# Altium integrated library NUVOTON.IntLib: 234 symbols (part 3 of 9)

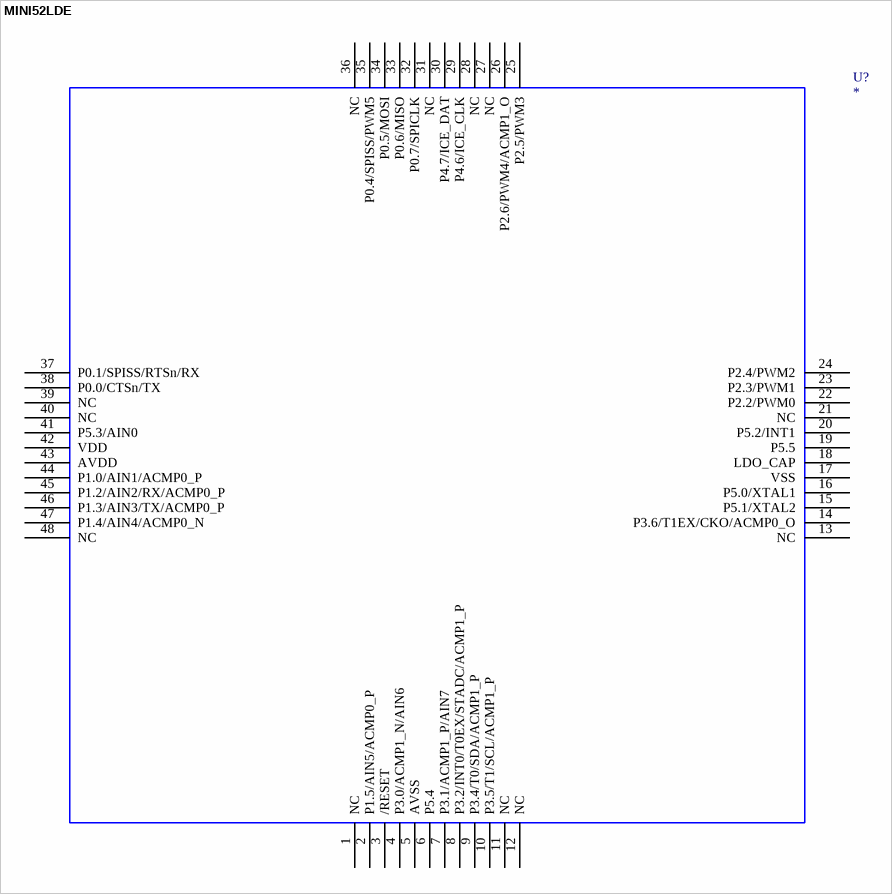
[diagram p46: symbol MINI52LDE]

## MINI52LDE
designator U?
OriginalSymbolOrigin: (0,0)
footprint MCU_LQFP_48
pins: 1 NC, 2 P1.5/AIN5/ACMP0_P, 3 /RESET, 4 P3.0/ACMP1_N/AIN6, 5 AVSS, 6 P5.4, 7 P3.1/ACMP1_P/AIN7, 8 P3.2/INT0/T0EX/STADC/ACMP1_P, 9 P3.4/T0/SDA/ACMP1_P, 10 P3.5/T1/SCL/ACMP1_P, 11 NC, 12 NC, 13 NC, 14 P3.6/T1EX/CKO/ACMP0_O, 15 P5.1/XTAL2, 16 P5.0/XTAL1, 17 VSS, 18 LDO_CAP, 19 P5.5, 20 P5.2/INT1, 21 NC, 22 P2.2/PWM0, 23 P2.3/PWM1, 24 P2.4/PWM2, 25 P2.5/PWM3, 26 P2.6/PWM4/ACMP1_O, 27 NC, 28 NC, 29 P4.6/ICE_CLK, 30 P4.7/ICE_DAT, 31 NC, 32 P0.7/SPICLK, 33 P0.6/MISO, 34 P0.5/MOSI, 35 P0.4/SPISS/PWM5, 36 NC, 37 P0.1/SPISS/RTSn/RX, 38 P0.0/CTSn/TX, 39 NC, 40 NC, 41 P5.3/AIN0, 42 VDD, 43 AVDD, 44 P1.0/AIN1/ACMP0_P, 45 P1.2/AIN2/RX/ACMP0_P, 46 P1.3/AIN3/TX/ACMP0_P, 47 P1.4/AIN4/ACMP0_N, 48 NC

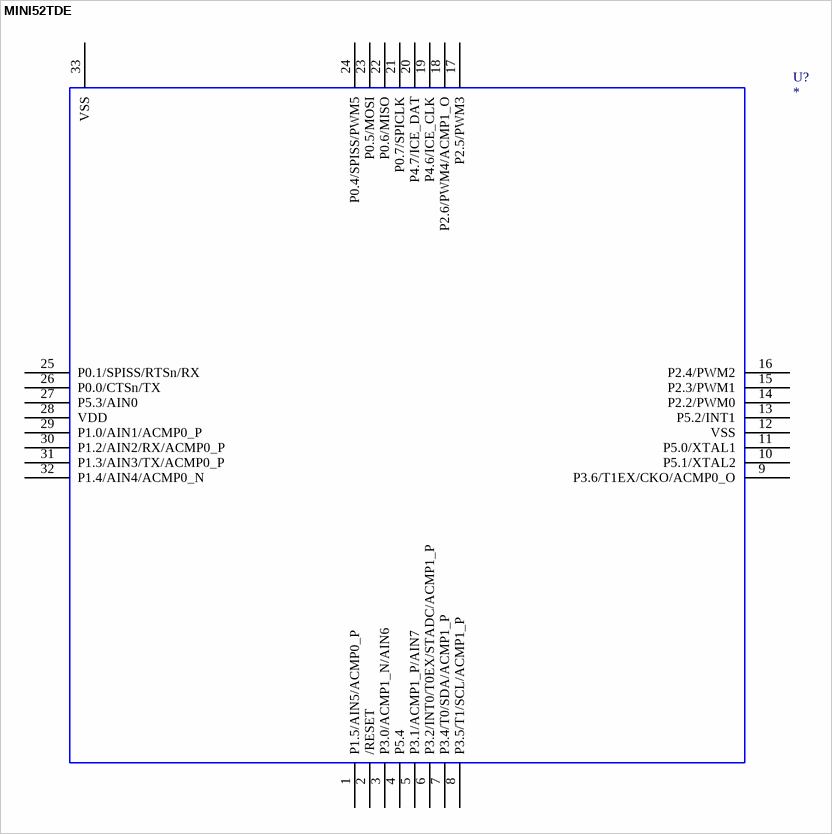
[diagram p47: symbol MINI52TDE]

## MINI52TDE
designator U?
OriginalSymbolOrigin: (0,0)
footprint MCU_QFN_33_4x4
pins: 1 P1.5/AIN5/ACMP0_P, 2 /RESET, 3 P3.0/ACMP1_N/AIN6, 4 P5.4, 5 P3.1/ACMP1_P/AIN7, 6 P3.2/INT0/T0EX/STADC/ACMP1_P, 7 P3.4/T0/SDA/ACMP1_P, 8 P3.5/T1/SCL/ACMP1_P, 9 P3.6/T1EX/CKO/ACMP0_O, 10 P5.1/XTAL2, 11 P5.0/XTAL1, 12 VSS, 13 P5.2/INT1, 14 P2.2/PWM0, 15 P2.3/PWM1, 16 P2.4/PWM2, 17 P2.5/PWM3, 18 P2.6/PWM4/ACMP1_O, 19 P4.6/ICE_CLK, 20 P4.7/ICE_DAT, 21 P0.7/SPICLK, 22 P0.6/MISO, 23 P0.5/MOSI, 24 P0.4/SPISS/PWM5, 25 P0.1/SPISS/RTSn/RX, 26 P0.0/CTSn/TX, 27 P5.3/AIN0, 28 VDD, 29 P1.0/AIN1/ACMP0_P, 30 P1.2/AIN2/RX/ACMP0_P, 31 P1.3/AIN3/TX/ACMP0_P, 32 P1.4/AIN4/ACMP0_N, 33 VSS

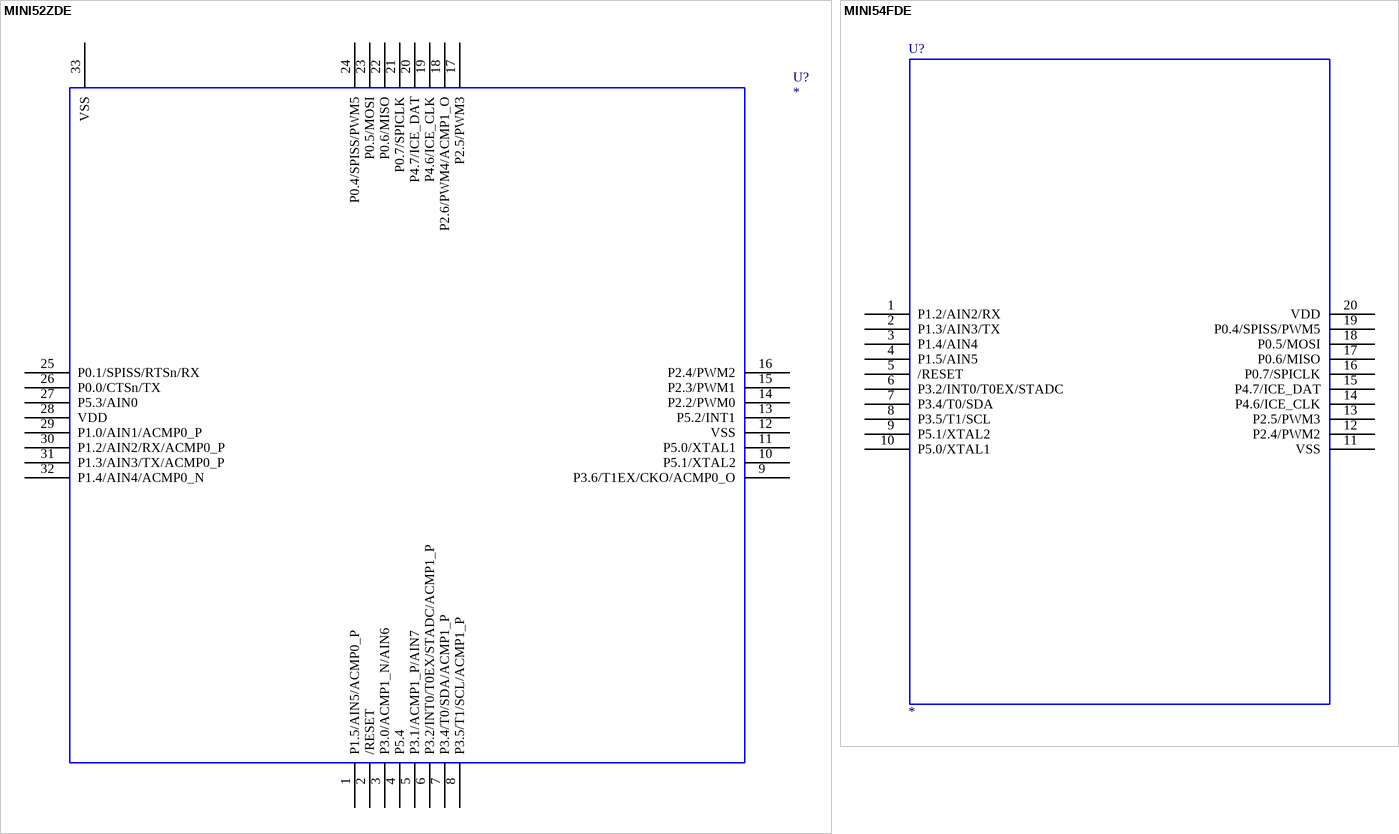
[diagram p48: symbols MINI52ZDE to MINI54FDE]

## MINI52ZDE
designator U?
OriginalSymbolOrigin: (0,0)
footprint MCU_QFN_33_5x5
pins: 1 P1.5/AIN5/ACMP0_P, 2 /RESET, 3 P3.0/ACMP1_N/AIN6, 4 P5.4, 5 P3.1/ACMP1_P/AIN7, 6 P3.2/INT0/T0EX/STADC/ACMP1_P, 7 P3.4/T0/SDA/ACMP1_P, 8 P3.5/T1/SCL/ACMP1_P, 9 P3.6/T1EX/CKO/ACMP0_O, 10 P5.1/XTAL2, 11 P5.0/XTAL1, 12 VSS, 13 P5.2/INT1, 14 P2.2/PWM0, 15 P2.3/PWM1, 16 P2.4/PWM2, 17 P2.5/PWM3, 18 P2.6/PWM4/ACMP1_O, 19 P4.6/ICE_CLK, 20 P4.7/ICE_DAT, 21 P0.7/SPICLK, 22 P0.6/MISO, 23 P0.5/MOSI, 24 P0.4/SPISS/PWM5, 25 P0.1/SPISS/RTSn/RX, 26 P0.0/CTSn/TX, 27 P5.3/AIN0, 28 VDD, 29 P1.0/AIN1/ACMP0_P, 30 P1.2/AIN2/RX/ACMP0_P, 31 P1.3/AIN3/TX/ACMP0_P, 32 P1.4/AIN4/ACMP0_N, 33 VSS

## MINI54FDE
designator U?
OriginalSymbolOrigin: (0,0)
footprint MCU_TSSOP_20
pins: 1 P1.2/AIN2/RX, 2 P1.3/AIN3/TX, 3 P1.4/AIN4, 4 P1.5/AIN5, 5 /RESET, 6 P3.2/INT0/T0EX/STADC, 7 P3.4/T0/SDA, 8 P3.5/T1/SCL, 9 P5.1/XTAL2, 10 P5.0/XTAL1, 11 VSS, 12 P2.4/PWM2, 13 P2.5/PWM3, 14 P4.6/ICE_CLK, 15 P4.7/ICE_DAT, 16 P0.7/SPICLK, 17 P0.6/MISO, 18 P0.5/MOSI, 19 P0.4/SPISS/PWM5, 20 VDD

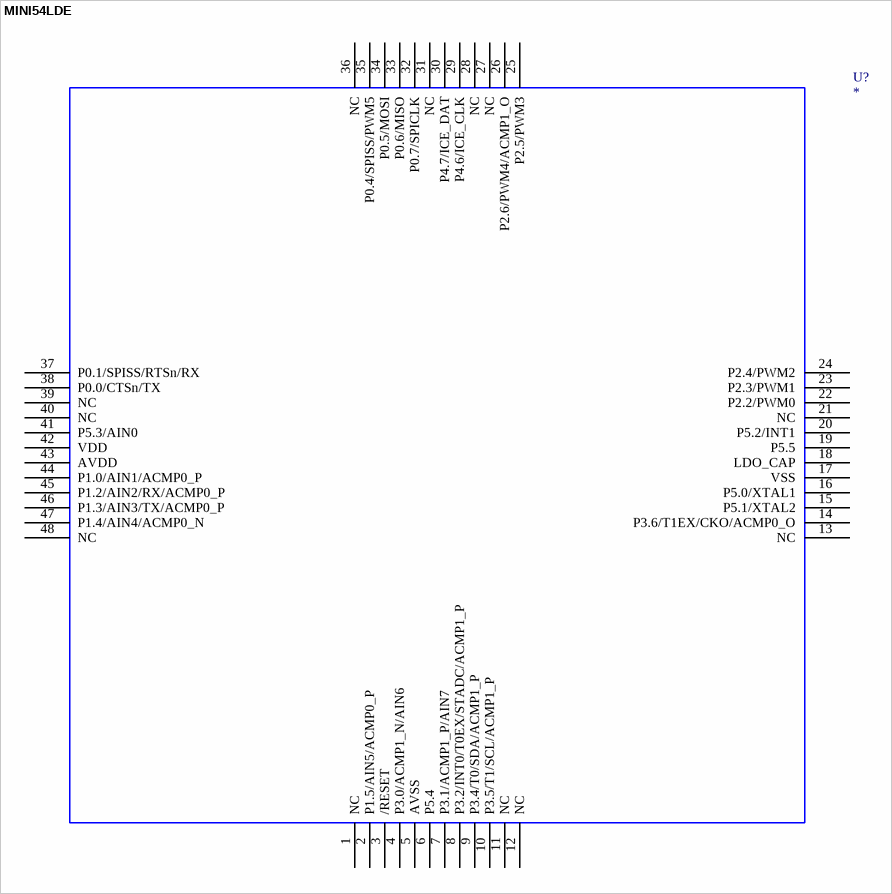
[diagram p49: symbol MINI54LDE]

## MINI54LDE
designator U?
OriginalSymbolOrigin: (0,0)
footprint MCU_LQFP_48
pins: 1 NC, 2 P1.5/AIN5/ACMP0_P, 3 /RESET, 4 P3.0/ACMP1_N/AIN6, 5 AVSS, 6 P5.4, 7 P3.1/ACMP1_P/AIN7, 8 P3.2/INT0/T0EX/STADC/ACMP1_P, 9 P3.4/T0/SDA/ACMP1_P, 10 P3.5/T1/SCL/ACMP1_P, 11 NC, 12 NC, 13 NC, 14 P3.6/T1EX/CKO/ACMP0_O, 15 P5.1/XTAL2, 16 P5.0/XTAL1, 17 VSS, 18 LDO_CAP, 19 P5.5, 20 P5.2/INT1, 21 NC, 22 P2.2/PWM0, 23 P2.3/PWM1, 24 P2.4/PWM2, 25 P2.5/PWM3, 26 P2.6/PWM4/ACMP1_O, 27 NC, 28 NC, 29 P4.6/ICE_CLK, 30 P4.7/ICE_DAT, 31 NC, 32 P0.7/SPICLK, 33 P0.6/MISO, 34 P0.5/MOSI, 35 P0.4/SPISS/PWM5, 36 NC, 37 P0.1/SPISS/RTSn/RX, 38 P0.0/CTSn/TX, 39 NC, 40 NC, 41 P5.3/AIN0, 42 VDD, 43 AVDD, 44 P1.0/AIN1/ACMP0_P, 45 P1.2/AIN2/RX/ACMP0_P, 46 P1.3/AIN3/TX/ACMP0_P, 47 P1.4/AIN4/ACMP0_N, 48 NC

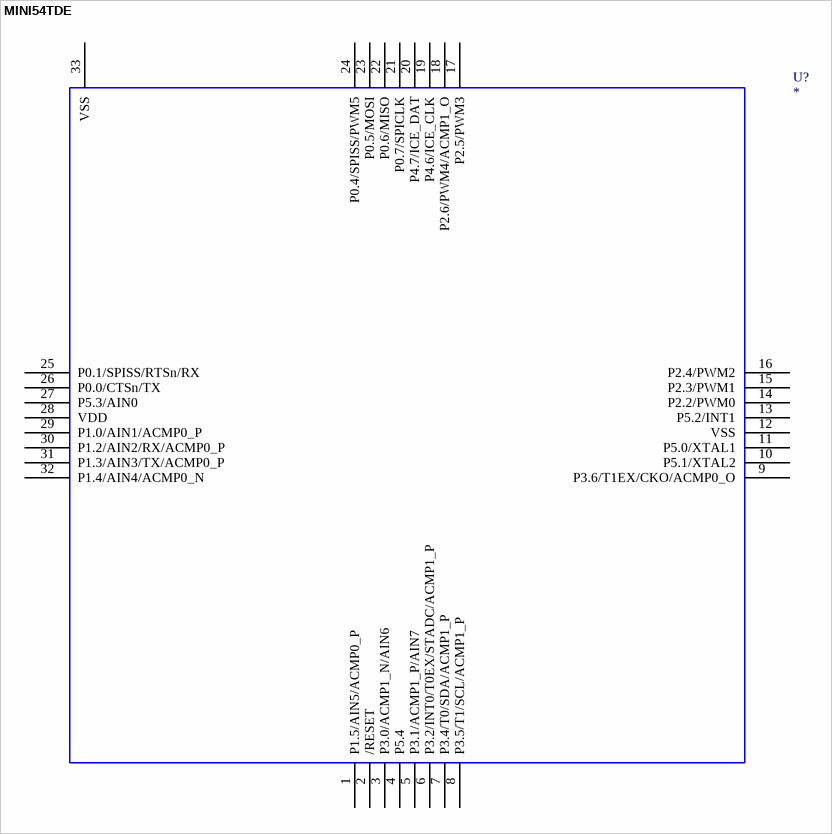
[diagram p50: symbol MINI54TDE]

## MINI54TDE
designator U?
OriginalSymbolOrigin: (0,0)
footprint MCU_QFN_33_4x4
pins: 1 P1.5/AIN5/ACMP0_P, 2 /RESET, 3 P3.0/ACMP1_N/AIN6, 4 P5.4, 5 P3.1/ACMP1_P/AIN7, 6 P3.2/INT0/T0EX/STADC/ACMP1_P, 7 P3.4/T0/SDA/ACMP1_P, 8 P3.5/T1/SCL/ACMP1_P, 9 P3.6/T1EX/CKO/ACMP0_O, 10 P5.1/XTAL2, 11 P5.0/XTAL1, 12 VSS, 13 P5.2/INT1, 14 P2.2/PWM0, 15 P2.3/PWM1, 16 P2.4/PWM2, 17 P2.5/PWM3, 18 P2.6/PWM4/ACMP1_O, 19 P4.6/ICE_CLK, 20 P4.7/ICE_DAT, 21 P0.7/SPICLK, 22 P0.6/MISO, 23 P0.5/MOSI, 24 P0.4/SPISS/PWM5, 25 P0.1/SPISS/RTSn/RX, 26 P0.0/CTSn/TX, 27 P5.3/AIN0, 28 VDD, 29 P1.0/AIN1/ACMP0_P, 30 P1.2/AIN2/RX/ACMP0_P, 31 P1.3/AIN3/TX/ACMP0_P, 32 P1.4/AIN4/ACMP0_N, 33 VSS

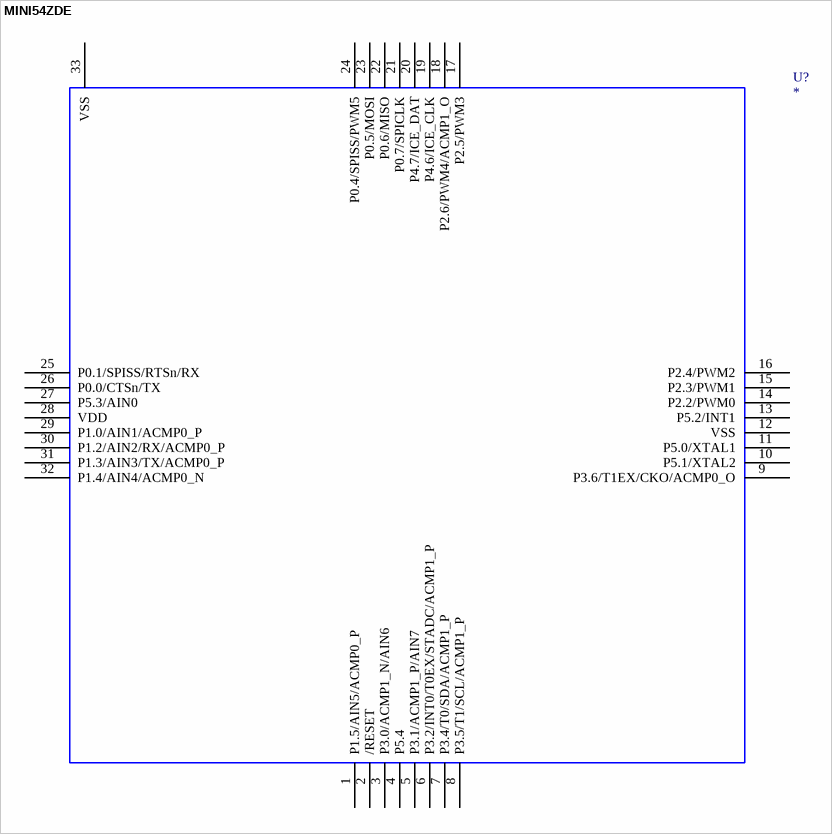
[diagram p51: symbol MINI54ZDE]

## MINI54ZDE
designator U?
OriginalSymbolOrigin: (0,0)
footprint MCU_QFN_33_5x5
pins: 1 P1.5/AIN5/ACMP0_P, 2 /RESET, 3 P3.0/ACMP1_N/AIN6, 4 P5.4, 5 P3.1/ACMP1_P/AIN7, 6 P3.2/INT0/T0EX/STADC/ACMP1_P, 7 P3.4/T0/SDA/ACMP1_P, 8 P3.5/T1/SCL/ACMP1_P, 9 P3.6/T1EX/CKO/ACMP0_O, 10 P5.1/XTAL2, 11 P5.0/XTAL1, 12 VSS, 13 P5.2/INT1, 14 P2.2/PWM0, 15 P2.3/PWM1, 16 P2.4/PWM2, 17 P2.5/PWM3, 18 P2.6/PWM4/ACMP1_O, 19 P4.6/ICE_CLK, 20 P4.7/ICE_DAT, 21 P0.7/SPICLK, 22 P0.6/MISO, 23 P0.5/MOSI, 24 P0.4/SPISS/PWM5, 25 P0.1/SPISS/RTSn/RX, 26 P0.0/CTSn/TX, 27 P5.3/AIN0, 28 VDD, 29 P1.0/AIN1/ACMP0_P, 30 P1.2/AIN2/RX/ACMP0_P, 31 P1.3/AIN3/TX/ACMP0_P, 32 P1.4/AIN4/ACMP0_N, 33 VSS

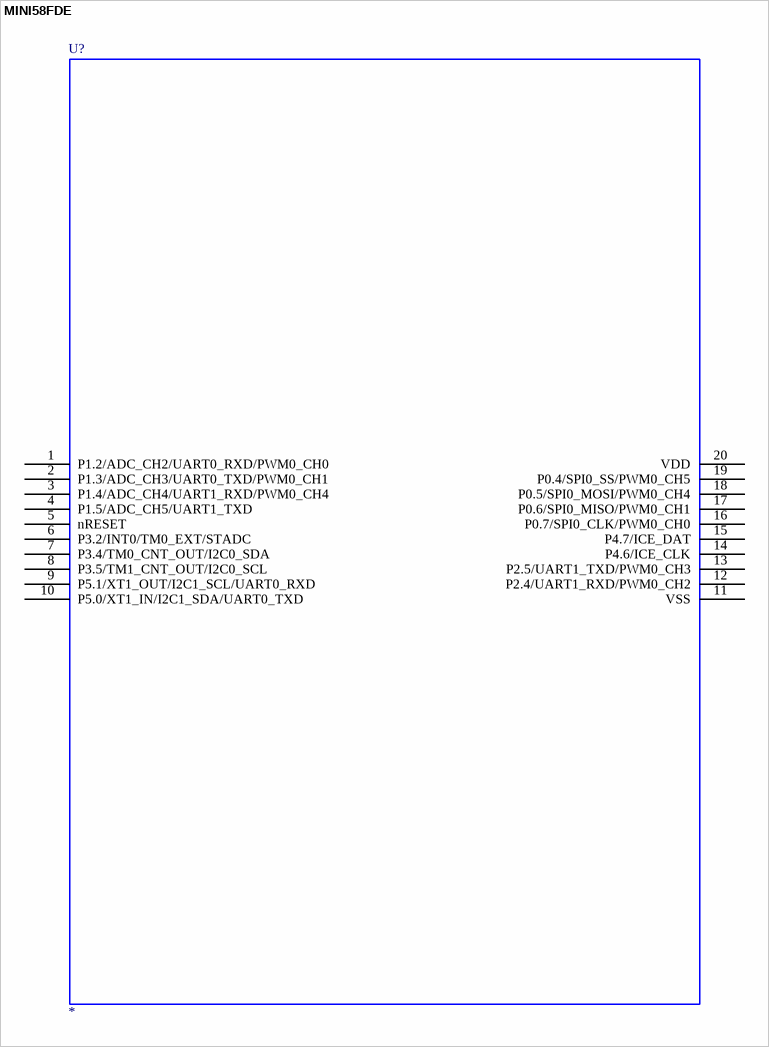
[diagram p52: symbol MINI58FDE]

## MINI58FDE
designator U?
OriginalSymbolOrigin: (0,0)
footprint MCU_TSSOP_20
pins: 1 P1.2/ADC_CH2/UART0_RXD/PWM0_CH0, 2 P1.3/ADC_CH3/UART0_TXD/PWM0_CH1, 3 P1.4/ADC_CH4/UART1_RXD/PWM0_CH4, 4 P1.5/ADC_CH5/UART1_TXD, 5 nRESET, 6 P3.2/INT0/TM0_EXT/STADC, 7 P3.4/TM0_CNT_OUT/I2C0_SDA, 8 P3.5/TM1_CNT_OUT/I2C0_SCL, 9 P5.1/XT1_OUT/I2C1_SCL/UART0_RXD, 10 P5.0/XT1_IN/I2C1_SDA/UART0_TXD, 11 VSS, 12 P2.4/UART1_RXD/PWM0_CH2, 13 P2.5/UART1_TXD/PWM0_CH3, 14 P4.6/ICE_CLK, 15 P4.7/ICE_DAT, 16 P0.7/SPI0_CLK/PWM0_CH0, 17 P0.6/SPI0_MISO/PWM0_CH1, 18 P0.5/SPI0_MOSI/PWM0_CH4, 19 P0.4/SPI0_SS/PWM0_CH5, 20 VDD

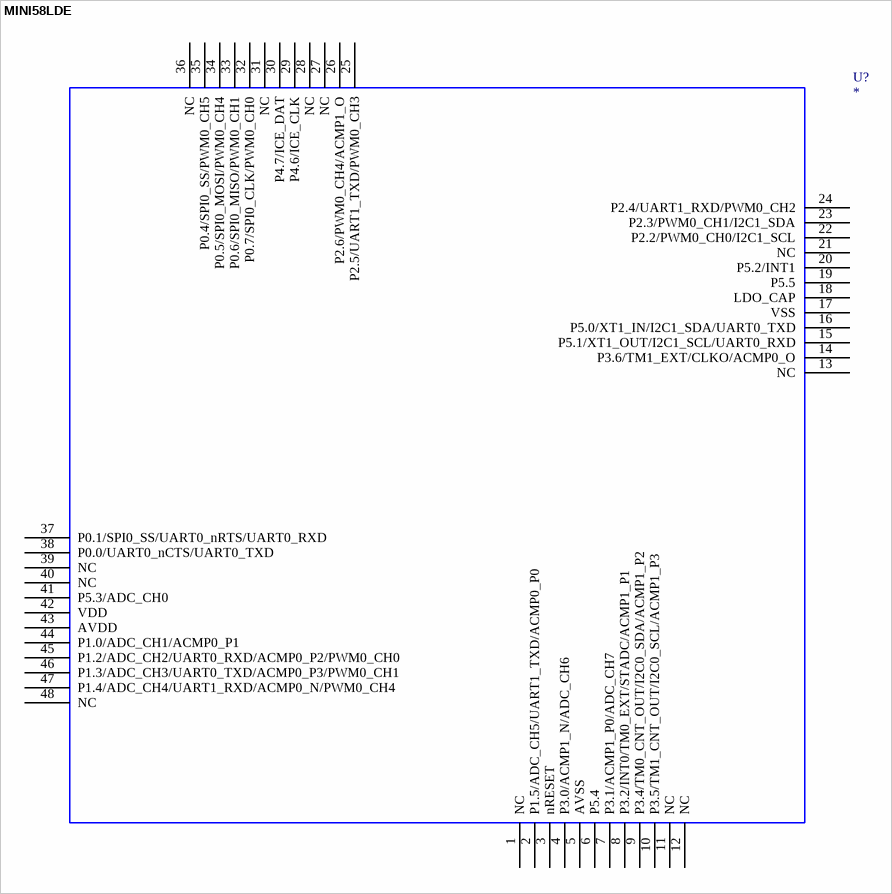
[diagram p53: symbol MINI58LDE]

## MINI58LDE
designator U?
OriginalSymbolOrigin: (0,0)
footprint MCU_LQFP_48
pins: 1 NC, 2 P1.5/ADC_CH5/UART1_TXD/ACMP0_P0, 3 nRESET, 4 P3.0/ACMP1_N/ADC_CH6, 5 AVSS, 6 P5.4, 7 P3.1/ACMP1_P0/ADC_CH7, 8 P3.2/INT0/TM0_EXT/STADC/ACMP1_P1, 9 P3.4/TM0_CNT_OUT/I2C0_SDA/ACMP1_P2, 10 P3.5/TM1_CNT_OUT/I2C0_SCL/ACMP1_P3, 11 NC, 12 NC, 13 NC, 14 P3.6/TM1_EXT/CLKO/ACMP0_O, 15 P5.1/XT1_OUT/I2C1_SCL/UART0_RXD, 16 P5.0/XT1_IN/I2C1_SDA/UART0_TXD, 17 VSS, 18 LDO_CAP, 19 P5.5, 20 P5.2/INT1, 21 NC, 22 P2.2/PWM0_CH0/I2C1_SCL, 23 P2.3/PWM0_CH1/I2C1_SDA, 24 P2.4/UART1_RXD/PWM0_CH2, 25 P2.5/UART1_TXD/PWM0_CH3, 26 P2.6/PWM0_CH4/ACMP1_O, 27 NC, 28 NC, 29 P4.6/ICE_CLK, 30 P4.7/ICE_DAT, 31 NC, 32 P0.7/SPI0_CLK/PWM0_CH0, 33 P0.6/SPI0_MISO/PWM0_CH1, 34 P0.5/SPI0_MOSI/PWM0_CH4, 35 P0.4/SPI0_SS/PWM0_CH5, 36 NC, 37 P0.1/SPI0_SS/UART0_nRTS/UART0_RXD, 38 P0.0/UART0_nCTS/UART0_TXD, 39 NC, 40 NC, 41 P5.3/ADC_CH0, 42 VDD, 43 AVDD, 44 P1.0/ADC_CH1/ACMP0_P1, 45 P1.2/ADC_CH2/UART0_RXD/ACMP0_P2/PWM0_CH0, 46 P1.3/ADC_CH3/UART0_TXD/ACMP0_P3/PWM0_CH1, 47 P1.4/ADC_CH4/UART1_RXD/ACMP0_N/PWM0_CH4, 48 NC

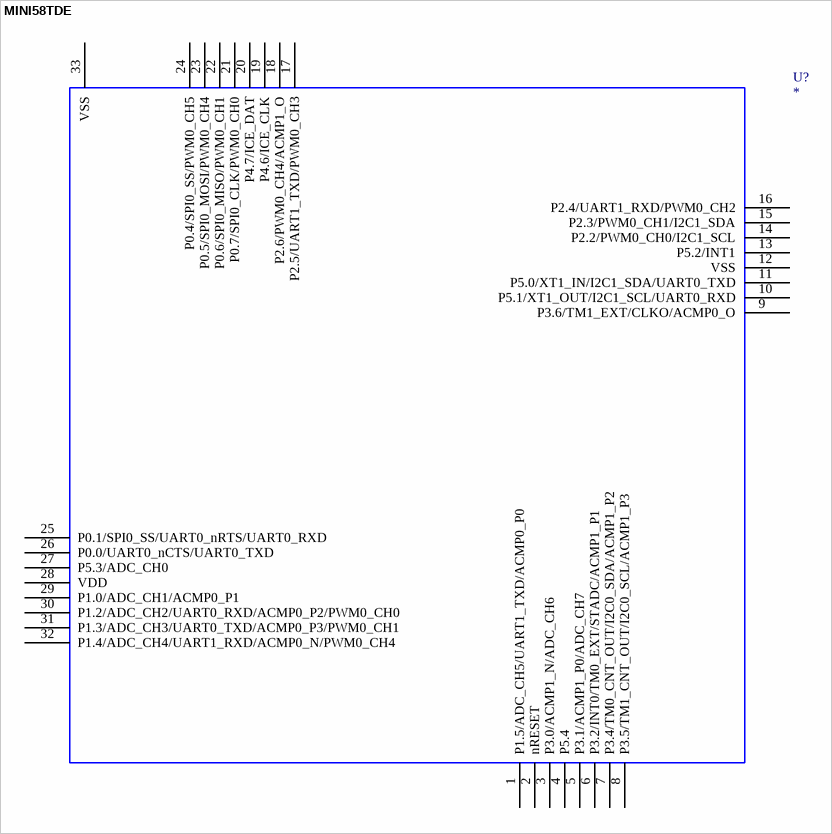
[diagram p54: symbol MINI58TDE]

## MINI58TDE
designator U?
OriginalSymbolOrigin: (0,0)
footprint MCU_QFN_33_4x4
pins: 1 P1.5/ADC_CH5/UART1_TXD/ACMP0_P0, 2 nRESET, 3 P3.0/ACMP1_N/ADC_CH6, 4 P5.4, 5 P3.1/ACMP1_P0/ADC_CH7, 6 P3.2/INT0/TM0_EXT/STADC/ACMP1_P1, 7 P3.4/TM0_CNT_OUT/I2C0_SDA/ACMP1_P2, 8 P3.5/TM1_CNT_OUT/I2C0_SCL/ACMP1_P3, 9 P3.6/TM1_EXT/CLKO/ACMP0_O, 10 P5.1/XT1_OUT/I2C1_SCL/UART0_RXD, 11 P5.0/XT1_IN/I2C1_SDA/UART0_TXD, 12 VSS, 13 P5.2/INT1, 14 P2.2/PWM0_CH0/I2C1_SCL, 15 P2.3/PWM0_CH1/I2C1_SDA, 16 P2.4/UART1_RXD/PWM0_CH2, 17 P2.5/UART1_TXD/PWM0_CH3, 18 P2.6/PWM0_CH4/ACMP1_O, 19 P4.6/ICE_CLK, 20 P4.7/ICE_DAT, 21 P0.7/SPI0_CLK/PWM0_CH0, 22 P0.6/SPI0_MISO/PWM0_CH1, 23 P0.5/SPI0_MOSI/PWM0_CH4, 24 P0.4/SPI0_SS/PWM0_CH5, 25 P0.1/SPI0_SS/UART0_nRTS/UART0_RXD, 26 P0.0/UART0_nCTS/UART0_TXD, 27 P5.3/ADC_CH0, 28 VDD, 29 P1.0/ADC_CH1/ACMP0_P1, 30 P1.2/ADC_CH2/UART0_RXD/ACMP0_P2/PWM0_CH0, 31 P1.3/ADC_CH3/UART0_TXD/ACMP0_P3/PWM0_CH1, 32 P1.4/ADC_CH4/UART1_RXD/ACMP0_N/PWM0_CH4, 33 VSS

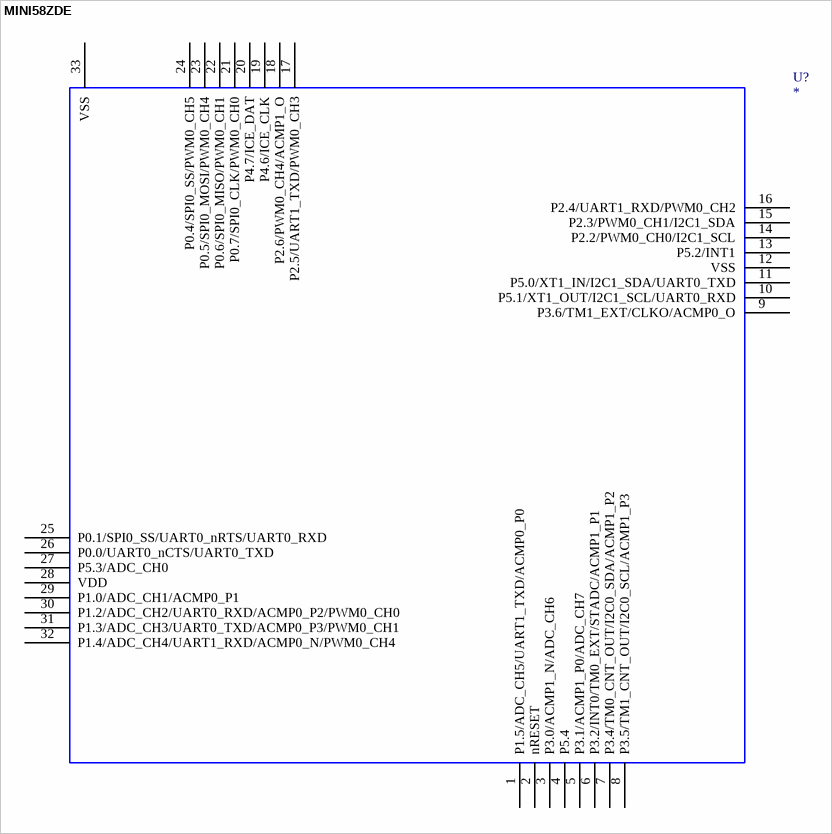
[diagram p55: symbol MINI58ZDE]

## MINI58ZDE
designator U?
OriginalSymbolOrigin: (0,0)
footprint MCU_QFN_33_5x5
pins: 1 P1.5/ADC_CH5/UART1_TXD/ACMP0_P0, 2 nRESET, 3 P3.0/ACMP1_N/ADC_CH6, 4 P5.4, 5 P3.1/ACMP1_P0/ADC_CH7, 6 P3.2/INT0/TM0_EXT/STADC/ACMP1_P1, 7 P3.4/TM0_CNT_OUT/I2C0_SDA/ACMP1_P2, 8 P3.5/TM1_CNT_OUT/I2C0_SCL/ACMP1_P3, 9 P3.6/TM1_EXT/CLKO/ACMP0_O, 10 P5.1/XT1_OUT/I2C1_SCL/UART0_RXD, 11 P5.0/XT1_IN/I2C1_SDA/UART0_TXD, 12 VSS, 13 P5.2/INT1, 14 P2.2/PWM0_CH0/I2C1_SCL, 15 P2.3/PWM0_CH1/I2C1_SDA, 16 P2.4/UART1_RXD/PWM0_CH2, 17 P2.5/UART1_TXD/PWM0_CH3, 18 P2.6/PWM0_CH4/ACMP1_O, 19 P4.6/ICE_CLK, 20 P4.7/ICE_DAT, 21 P0.7/SPI0_CLK/PWM0_CH0, 22 P0.6/SPI0_MISO/PWM0_CH1, 23 P0.5/SPI0_MOSI/PWM0_CH4, 24 P0.4/SPI0_SS/PWM0_CH5, 25 P0.1/SPI0_SS/UART0_nRTS/UART0_RXD, 26 P0.0/UART0_nCTS/UART0_TXD, 27 P5.3/ADC_CH0, 28 VDD, 29 P1.0/ADC_CH1/ACMP0_P1, 30 P1.2/ADC_CH2/UART0_RXD/ACMP0_P2/PWM0_CH0, 31 P1.3/ADC_CH3/UART0_TXD/ACMP0_P3/PWM0_CH1, 32 P1.4/ADC_CH4/UART1_RXD/ACMP0_N/PWM0_CH4, 33 VSS


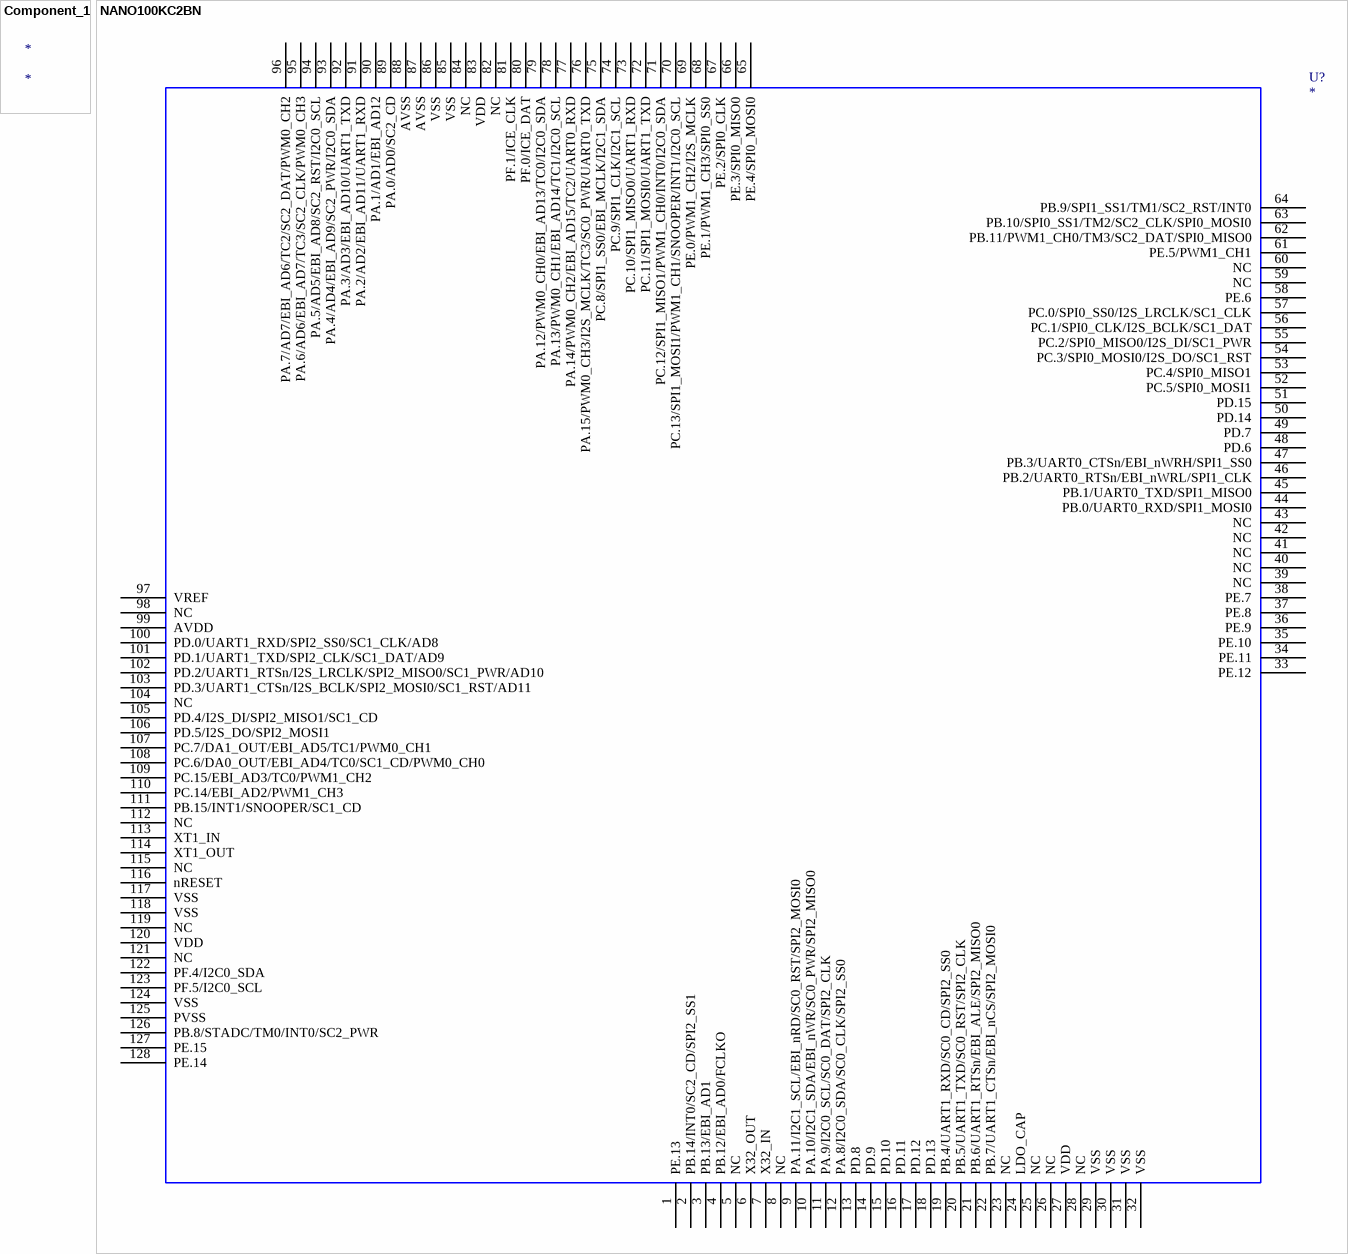
[diagram p56: symbols Component_1 to NANO100KC2BN]

## Component_1
designator *

## NANO100KC2BN
designator U?
OriginalSymbolOrigin: (0,0)
footprint MCU_LQFP_128
pins: 1 PE.13, 2 PB.14/INT0/SC2_CD/SPI2_SS1, 3 PB.13/EBI_AD1, 4 PB.12/EBI_AD0/FCLKO, 5 NC, 6 X32_OUT, 7 X32_IN, 8 NC, 9 PA.11/I2C1_SCL/EBI_nRD/SC0_RST/SPI2_MOSI0, 10 PA.10/I2C1_SDA/EBI_nWR/SC0_PWR/SPI2_MISO0, 11 PA.9/I2C0_SCL/SC0_DAT/SPI2_CLK, 12 PA.8/I2C0_SDA/SC0_CLK/SPI2_SS0, 13 PD.8, 14 PD.9, 15 PD.10, 16 PD.11, 17 PD.12, 18 PD.13, 19 PB.4/UART1_RXD/SC0_CD/SPI2_SS0, 20 PB.5/UART1_TXD/SC0_RST/SPI2_CLK, 21 PB.6/UART1_RTSn/EBI_ALE/SPI2_MISO0, 22 PB.7/UART1_CTSn/EBI_nCS/SPI2_MOSI0, 23 NC, 24 LDO_CAP, 25 NC, 26 NC, 27 VDD, 28 NC, 29 VSS, 30 VSS, 31 VSS, 32 VSS, 33 PE.12, 34 PE.11, 35 PE.10, 36 PE.9, 37 PE.8, 38 PE.7, 39 NC, 40 NC, 41 NC, 42 NC, 43 NC, 44 PB.0/UART0_RXD/SPI1_MOSI0, 45 PB.1/UART0_TXD/SPI1_MISO0, 46 PB.2/UART0_RTSn/EBI_nWRL/SPI1_CLK, 47 PB.3/UART0_CTSn/EBI_nWRH/SPI1_SS0, 48 PD.6, 49 PD.7, 50 PD.14, 51 PD.15, 52 PC.5/SPI0_MOSI1, 53 PC.4/SPI0_MISO1, 54 PC.3/SPI0_MOSI0/I2S_DO/SC1_RST, 55 PC.2/SPI0_MISO0/I2S_DI/SC1_PWR, 56 PC.1/SPI0_CLK/I2S_BCLK/SC1_DAT, 57 PC.0/SPI0_SS0/I2S_LRCLK/SC1_CLK, 58 PE.6, 59 NC, 60 NC, 61 PE.5/PWM1_CH1, 62 PB.11/PWM1_CH0/TM3/SC2_DAT/SPI0_MISO0, 63 PB.10/SPI0_SS1/TM2/SC2_CLK/SPI0_MOSI0, 64 PB.9/SPI1_SS1/TM1/SC2_RST/INT0, 65 PE.4/SPI0_MOSI0, 66 PE.3/SPI0_MISO0, 67 PE.2/SPI0_CLK, 68 PE.1/PWM1_CH3/SPI0_SS0, 69 PE.0/PWM1_CH2/I2S_MCLK, 70 PC.13/SPI1_MOSI1/PWM1_CH1/SNOOPER/INT1/I2C0_SCL, 71 PC.12/SPI1_MISO1/PWM1_CH0/INT0/I2C0_SDA, 72 PC.11/SPI1_MOSI0/UART1_TXD, 73 PC.10/SPI1_MISO0/UART1_RXD, 74 PC.9/SPI1_CLK/I2C1_SCL, 75 PC.8/SPI1_SS0/EBI_MCLK/I2C1_SDA, 76 PA.15/PWM0_CH3/I2S_MCLK/TC3/SC0_PWR/UART0_TXD, 77 PA.14/PWM0_CH2/EBI_AD15/TC2/UART0_RXD, 78 PA.13/PWM0_CH1/EBI_AD14/TC1/I2C0_SCL, 79 PA.12/PWM0_CH0/EBI_AD13/TC0/I2C0_SDA, 80 PF.0/ICE_DAT, 81 PF.1/ICE_CLK, 82 NC, 83 VDD, 84 NC, 85 VSS, 86 VSS, 87 AVSS, 88 AVSS, 89 PA.0/AD0/SC2_CD, 90 PA.1/AD1/EBI_AD12, 91 PA.2/AD2/EBI_AD11/UART1_RXD, 92 PA.3/AD3/EBI_AD10/UART1_TXD, 93 PA.4/AD4/EBI_AD9/SC2_PWR/I2C0_SDA, 94 PA.5/AD5/EBI_AD8/SC2_RST/I2C0_SCL, 95 PA.6/AD6/EBI_AD7/TC3/SC2_CLK/PWM0_CH3, 96 PA.7/AD7/EBI_AD6/TC2/SC2_DAT/PWM0_CH2, 97 VREF, 98 NC, 99 AVDD, 100 PD.0/UART1_RXD/SPI2_SS0/SC1_CLK/AD8, 101 PD.1/UART1_TXD/SPI2_CLK/SC1_DAT/AD9, 102 PD.2/UART1_RTSn/I2S_LRCLK/SPI2_MISO0/SC1_PWR/AD10, 103 PD.3/UART1_CTSn/I2S_BCLK/SPI2_MOSI0/SC1_RST/AD11, 104 NC, 105 PD.4/I2S_DI/SPI2_MISO1/SC1_CD, 106 PD.5/I2S_DO/SPI2_MOSI1, 107 PC.7/DA1_OUT/EBI_AD5/TC1/PWM0_CH1, 108 PC.6/DA0_OUT/EBI_AD4/TC0/SC1_CD/PWM0_CH0, 109 PC.15/EBI_AD3/TC0/PWM1_CH2, 110 PC.14/EBI_AD2/PWM1_CH3, 111 PB.15/INT1/SNOOPER/SC1_CD, 112 NC, 113 XT1_IN, 114 XT1_OUT, 115 NC, 116 nRESET, 117 VSS, 118 VSS, 119 NC, 120 VDD, 121 NC, 122 PF.4/I2C0_SDA, 123 PF.5/I2C0_SCL, 124 VSS, 125 PVSS, 126 PB.8/STADC/TM0/INT0/SC2_PWR, 127 PE.15, 128 PE.14

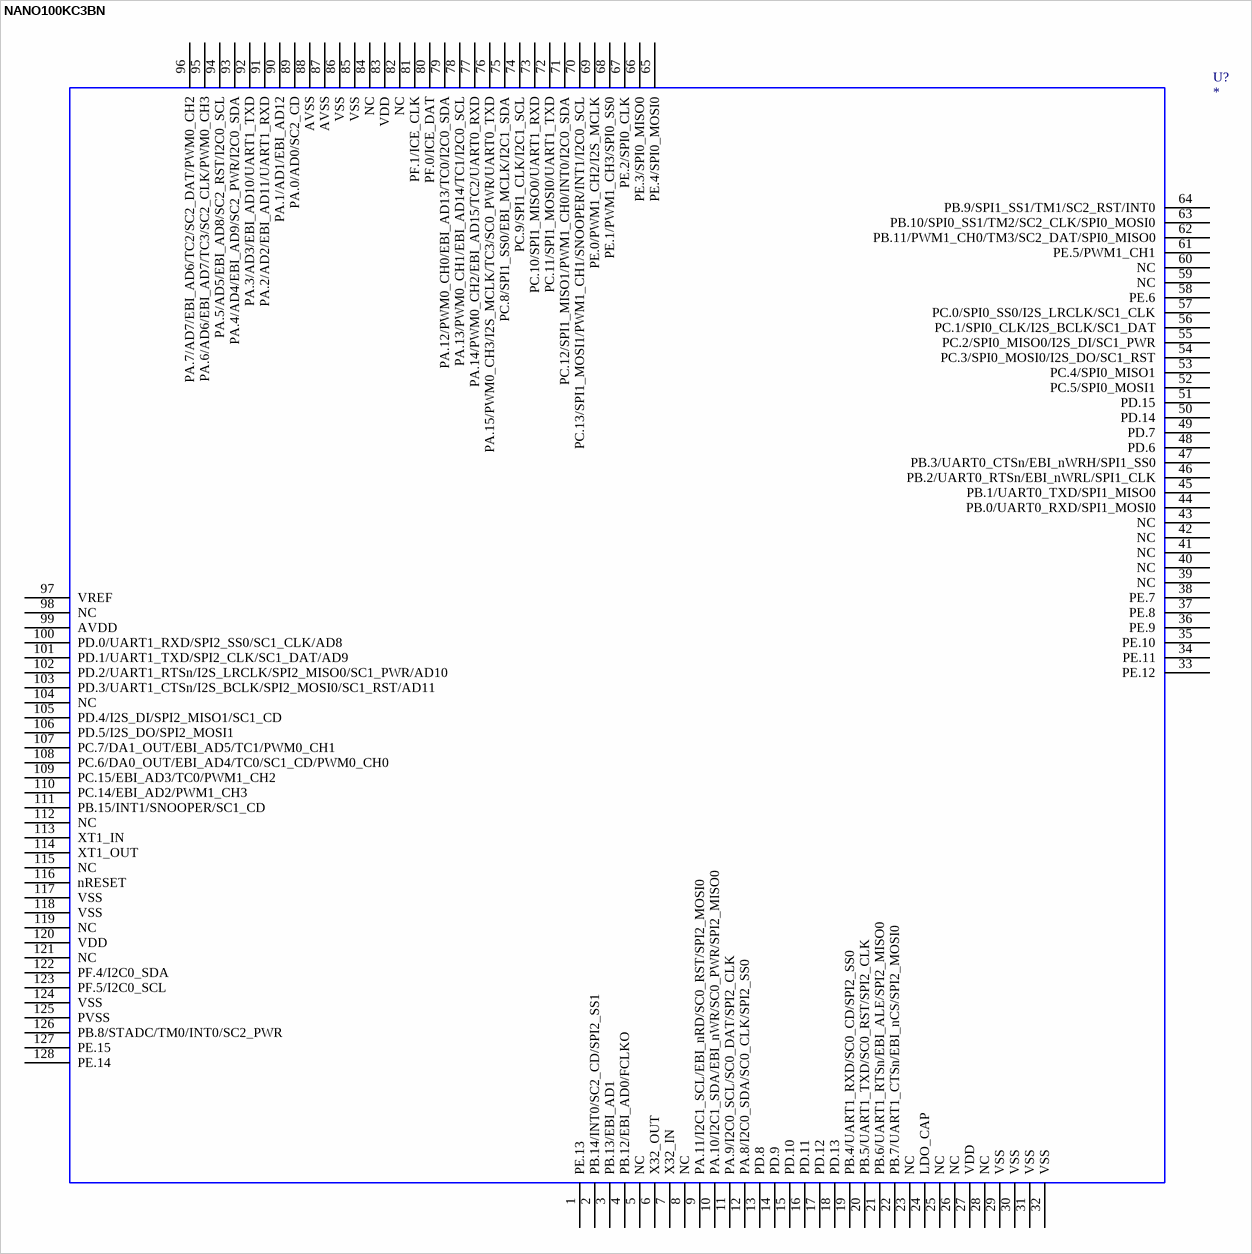
[diagram p57: symbol NANO100KC3BN]

## NANO100KC3BN
designator U?
OriginalSymbolOrigin: (0,0)
footprint MCU_LQFP_128
pins: 1 PE.13, 2 PB.14/INT0/SC2_CD/SPI2_SS1, 3 PB.13/EBI_AD1, 4 PB.12/EBI_AD0/FCLKO, 5 NC, 6 X32_OUT, 7 X32_IN, 8 NC, 9 PA.11/I2C1_SCL/EBI_nRD/SC0_RST/SPI2_MOSI0, 10 PA.10/I2C1_SDA/EBI_nWR/SC0_PWR/SPI2_MISO0, 11 PA.9/I2C0_SCL/SC0_DAT/SPI2_CLK, 12 PA.8/I2C0_SDA/SC0_CLK/SPI2_SS0, 13 PD.8, 14 PD.9, 15 PD.10, 16 PD.11, 17 PD.12, 18 PD.13, 19 PB.4/UART1_RXD/SC0_CD/SPI2_SS0, 20 PB.5/UART1_TXD/SC0_RST/SPI2_CLK, 21 PB.6/UART1_RTSn/EBI_ALE/SPI2_MISO0, 22 PB.7/UART1_CTSn/EBI_nCS/SPI2_MOSI0, 23 NC, 24 LDO_CAP, 25 NC, 26 NC, 27 VDD, 28 NC, 29 VSS, 30 VSS, 31 VSS, 32 VSS, 33 PE.12, 34 PE.11, 35 PE.10, 36 PE.9, 37 PE.8, 38 PE.7, 39 NC, 40 NC, 41 NC, 42 NC, 43 NC, 44 PB.0/UART0_RXD/SPI1_MOSI0, 45 PB.1/UART0_TXD/SPI1_MISO0, 46 PB.2/UART0_RTSn/EBI_nWRL/SPI1_CLK, 47 PB.3/UART0_CTSn/EBI_nWRH/SPI1_SS0, 48 PD.6, 49 PD.7, 50 PD.14, 51 PD.15, 52 PC.5/SPI0_MOSI1, 53 PC.4/SPI0_MISO1, 54 PC.3/SPI0_MOSI0/I2S_DO/SC1_RST, 55 PC.2/SPI0_MISO0/I2S_DI/SC1_PWR, 56 PC.1/SPI0_CLK/I2S_BCLK/SC1_DAT, 57 PC.0/SPI0_SS0/I2S_LRCLK/SC1_CLK, 58 PE.6, 59 NC, 60 NC, 61 PE.5/PWM1_CH1, 62 PB.11/PWM1_CH0/TM3/SC2_DAT/SPI0_MISO0, 63 PB.10/SPI0_SS1/TM2/SC2_CLK/SPI0_MOSI0, 64 PB.9/SPI1_SS1/TM1/SC2_RST/INT0, 65 PE.4/SPI0_MOSI0, 66 PE.3/SPI0_MISO0, 67 PE.2/SPI0_CLK, 68 PE.1/PWM1_CH3/SPI0_SS0, 69 PE.0/PWM1_CH2/I2S_MCLK, 70 PC.13/SPI1_MOSI1/PWM1_CH1/SNOOPER/INT1/I2C0_SCL, 71 PC.12/SPI1_MISO1/PWM1_CH0/INT0/I2C0_SDA, 72 PC.11/SPI1_MOSI0/UART1_TXD, 73 PC.10/SPI1_MISO0/UART1_RXD, 74 PC.9/SPI1_CLK/I2C1_SCL, 75 PC.8/SPI1_SS0/EBI_MCLK/I2C1_SDA, 76 PA.15/PWM0_CH3/I2S_MCLK/TC3/SC0_PWR/UART0_TXD, 77 PA.14/PWM0_CH2/EBI_AD15/TC2/UART0_RXD, 78 PA.13/PWM0_CH1/EBI_AD14/TC1/I2C0_SCL, 79 PA.12/PWM0_CH0/EBI_AD13/TC0/I2C0_SDA, 80 PF.0/ICE_DAT, 81 PF.1/ICE_CLK, 82 NC, 83 VDD, 84 NC, 85 VSS, 86 VSS, 87 AVSS, 88 AVSS, 89 PA.0/AD0/SC2_CD, 90 PA.1/AD1/EBI_AD12, 91 PA.2/AD2/EBI_AD11/UART1_RXD, 92 PA.3/AD3/EBI_AD10/UART1_TXD, 93 PA.4/AD4/EBI_AD9/SC2_PWR/I2C0_SDA, 94 PA.5/AD5/EBI_AD8/SC2_RST/I2C0_SCL, 95 PA.6/AD6/EBI_AD7/TC3/SC2_CLK/PWM0_CH3, 96 PA.7/AD7/EBI_AD6/TC2/SC2_DAT/PWM0_CH2, 97 VREF, 98 NC, 99 AVDD, 100 PD.0/UART1_RXD/SPI2_SS0/SC1_CLK/AD8, 101 PD.1/UART1_TXD/SPI2_CLK/SC1_DAT/AD9, 102 PD.2/UART1_RTSn/I2S_LRCLK/SPI2_MISO0/SC1_PWR/AD10, 103 PD.3/UART1_CTSn/I2S_BCLK/SPI2_MOSI0/SC1_RST/AD11, 104 NC, 105 PD.4/I2S_DI/SPI2_MISO1/SC1_CD, 106 PD.5/I2S_DO/SPI2_MOSI1, 107 PC.7/DA1_OUT/EBI_AD5/TC1/PWM0_CH1, 108 PC.6/DA0_OUT/EBI_AD4/TC0/SC1_CD/PWM0_CH0, 109 PC.15/EBI_AD3/TC0/PWM1_CH2, 110 PC.14/EBI_AD2/PWM1_CH3, 111 PB.15/INT1/SNOOPER/SC1_CD, 112 NC, 113 XT1_IN, 114 XT1_OUT, 115 NC, 116 nRESET, 117 VSS, 118 VSS, 119 NC, 120 VDD, 121 NC, 122 PF.4/I2C0_SDA, 123 PF.5/I2C0_SCL, 124 VSS, 125 PVSS, 126 PB.8/STADC/TM0/INT0/SC2_PWR, 127 PE.15, 128 PE.14

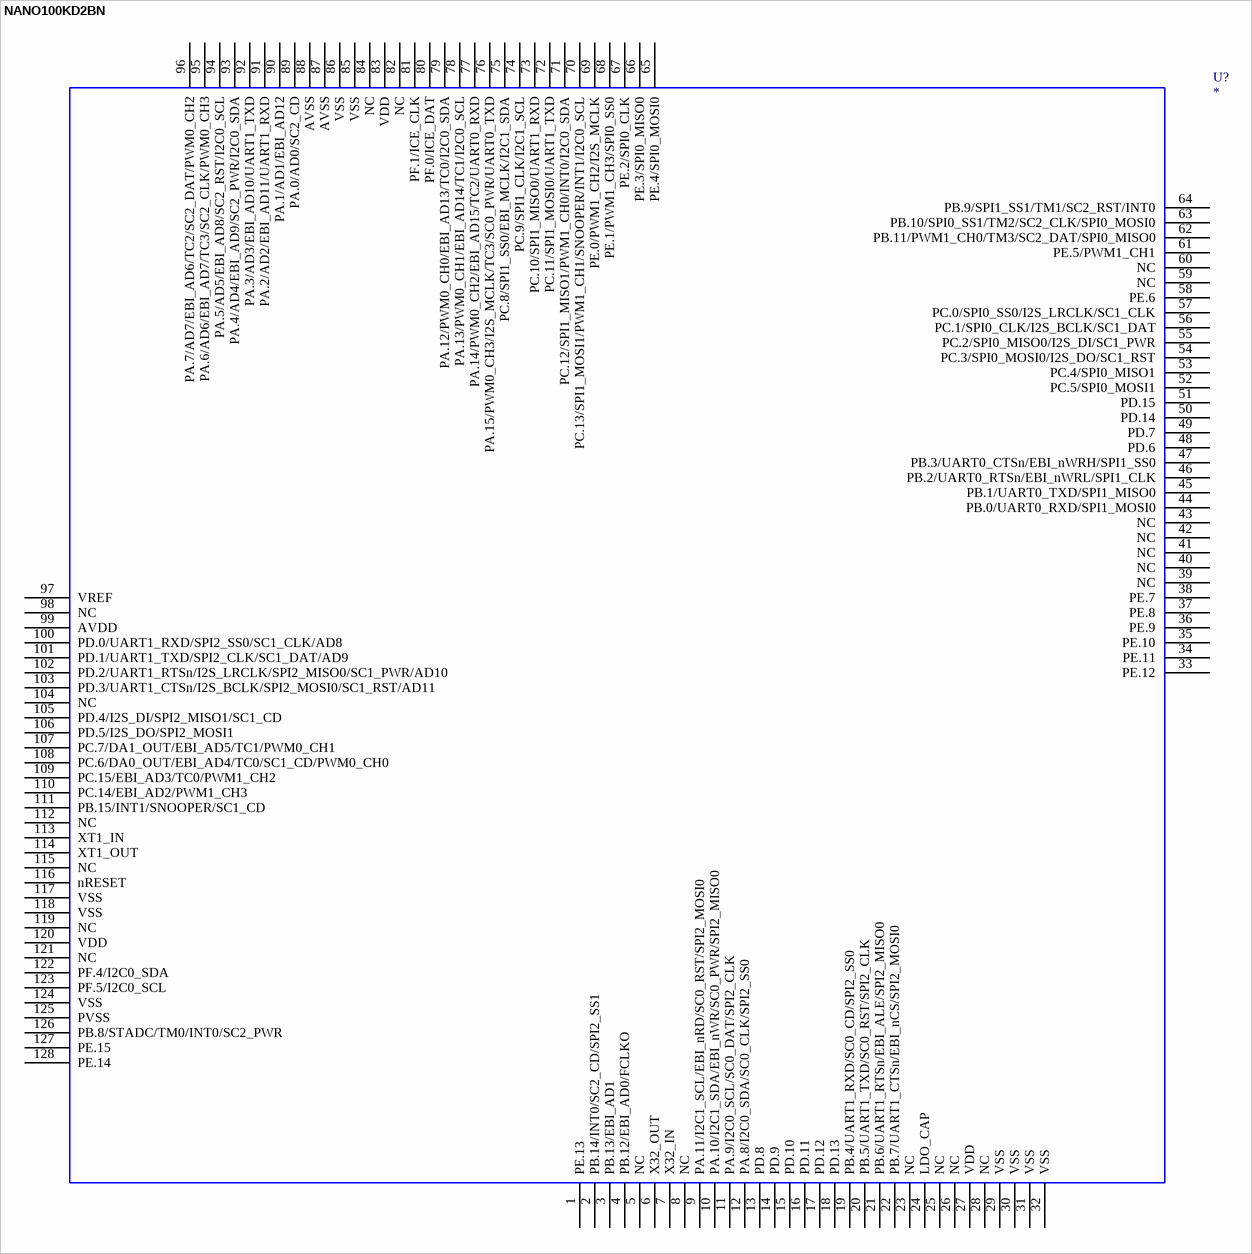
[diagram p58: symbol NANO100KD2BN]

## NANO100KD2BN
designator U?
OriginalSymbolOrigin: (0,0)
footprint MCU_LQFP_128
pins: 1 PE.13, 2 PB.14/INT0/SC2_CD/SPI2_SS1, 3 PB.13/EBI_AD1, 4 PB.12/EBI_AD0/FCLKO, 5 NC, 6 X32_OUT, 7 X32_IN, 8 NC, 9 PA.11/I2C1_SCL/EBI_nRD/SC0_RST/SPI2_MOSI0, 10 PA.10/I2C1_SDA/EBI_nWR/SC0_PWR/SPI2_MISO0, 11 PA.9/I2C0_SCL/SC0_DAT/SPI2_CLK, 12 PA.8/I2C0_SDA/SC0_CLK/SPI2_SS0, 13 PD.8, 14 PD.9, 15 PD.10, 16 PD.11, 17 PD.12, 18 PD.13, 19 PB.4/UART1_RXD/SC0_CD/SPI2_SS0, 20 PB.5/UART1_TXD/SC0_RST/SPI2_CLK, 21 PB.6/UART1_RTSn/EBI_ALE/SPI2_MISO0, 22 PB.7/UART1_CTSn/EBI_nCS/SPI2_MOSI0, 23 NC, 24 LDO_CAP, 25 NC, 26 NC, 27 VDD, 28 NC, 29 VSS, 30 VSS, 31 VSS, 32 VSS, 33 PE.12, 34 PE.11, 35 PE.10, 36 PE.9, 37 PE.8, 38 PE.7, 39 NC, 40 NC, 41 NC, 42 NC, 43 NC, 44 PB.0/UART0_RXD/SPI1_MOSI0, 45 PB.1/UART0_TXD/SPI1_MISO0, 46 PB.2/UART0_RTSn/EBI_nWRL/SPI1_CLK, 47 PB.3/UART0_CTSn/EBI_nWRH/SPI1_SS0, 48 PD.6, 49 PD.7, 50 PD.14, 51 PD.15, 52 PC.5/SPI0_MOSI1, 53 PC.4/SPI0_MISO1, 54 PC.3/SPI0_MOSI0/I2S_DO/SC1_RST, 55 PC.2/SPI0_MISO0/I2S_DI/SC1_PWR, 56 PC.1/SPI0_CLK/I2S_BCLK/SC1_DAT, 57 PC.0/SPI0_SS0/I2S_LRCLK/SC1_CLK, 58 PE.6, 59 NC, 60 NC, 61 PE.5/PWM1_CH1, 62 PB.11/PWM1_CH0/TM3/SC2_DAT/SPI0_MISO0, 63 PB.10/SPI0_SS1/TM2/SC2_CLK/SPI0_MOSI0, 64 PB.9/SPI1_SS1/TM1/SC2_RST/INT0, 65 PE.4/SPI0_MOSI0, 66 PE.3/SPI0_MISO0, 67 PE.2/SPI0_CLK, 68 PE.1/PWM1_CH3/SPI0_SS0, 69 PE.0/PWM1_CH2/I2S_MCLK, 70 PC.13/SPI1_MOSI1/PWM1_CH1/SNOOPER/INT1/I2C0_SCL, 71 PC.12/SPI1_MISO1/PWM1_CH0/INT0/I2C0_SDA, 72 PC.11/SPI1_MOSI0/UART1_TXD, 73 PC.10/SPI1_MISO0/UART1_RXD, 74 PC.9/SPI1_CLK/I2C1_SCL, 75 PC.8/SPI1_SS0/EBI_MCLK/I2C1_SDA, 76 PA.15/PWM0_CH3/I2S_MCLK/TC3/SC0_PWR/UART0_TXD, 77 PA.14/PWM0_CH2/EBI_AD15/TC2/UART0_RXD, 78 PA.13/PWM0_CH1/EBI_AD14/TC1/I2C0_SCL, 79 PA.12/PWM0_CH0/EBI_AD13/TC0/I2C0_SDA, 80 PF.0/ICE_DAT, 81 PF.1/ICE_CLK, 82 NC, 83 VDD, 84 NC, 85 VSS, 86 VSS, 87 AVSS, 88 AVSS, 89 PA.0/AD0/SC2_CD, 90 PA.1/AD1/EBI_AD12, 91 PA.2/AD2/EBI_AD11/UART1_RXD, 92 PA.3/AD3/EBI_AD10/UART1_TXD, 93 PA.4/AD4/EBI_AD9/SC2_PWR/I2C0_SDA, 94 PA.5/AD5/EBI_AD8/SC2_RST/I2C0_SCL, 95 PA.6/AD6/EBI_AD7/TC3/SC2_CLK/PWM0_CH3, 96 PA.7/AD7/EBI_AD6/TC2/SC2_DAT/PWM0_CH2, 97 VREF, 98 NC, 99 AVDD, 100 PD.0/UART1_RXD/SPI2_SS0/SC1_CLK/AD8, 101 PD.1/UART1_TXD/SPI2_CLK/SC1_DAT/AD9, 102 PD.2/UART1_RTSn/I2S_LRCLK/SPI2_MISO0/SC1_PWR/AD10, 103 PD.3/UART1_CTSn/I2S_BCLK/SPI2_MOSI0/SC1_RST/AD11, 104 NC, 105 PD.4/I2S_DI/SPI2_MISO1/SC1_CD, 106 PD.5/I2S_DO/SPI2_MOSI1, 107 PC.7/DA1_OUT/EBI_AD5/TC1/PWM0_CH1, 108 PC.6/DA0_OUT/EBI_AD4/TC0/SC1_CD/PWM0_CH0, 109 PC.15/EBI_AD3/TC0/PWM1_CH2, 110 PC.14/EBI_AD2/PWM1_CH3, 111 PB.15/INT1/SNOOPER/SC1_CD, 112 NC, 113 XT1_IN, 114 XT1_OUT, 115 NC, 116 nRESET, 117 VSS, 118 VSS, 119 NC, 120 VDD, 121 NC, 122 PF.4/I2C0_SDA, 123 PF.5/I2C0_SCL, 124 VSS, 125 PVSS, 126 PB.8/STADC/TM0/INT0/SC2_PWR, 127 PE.15, 128 PE.14

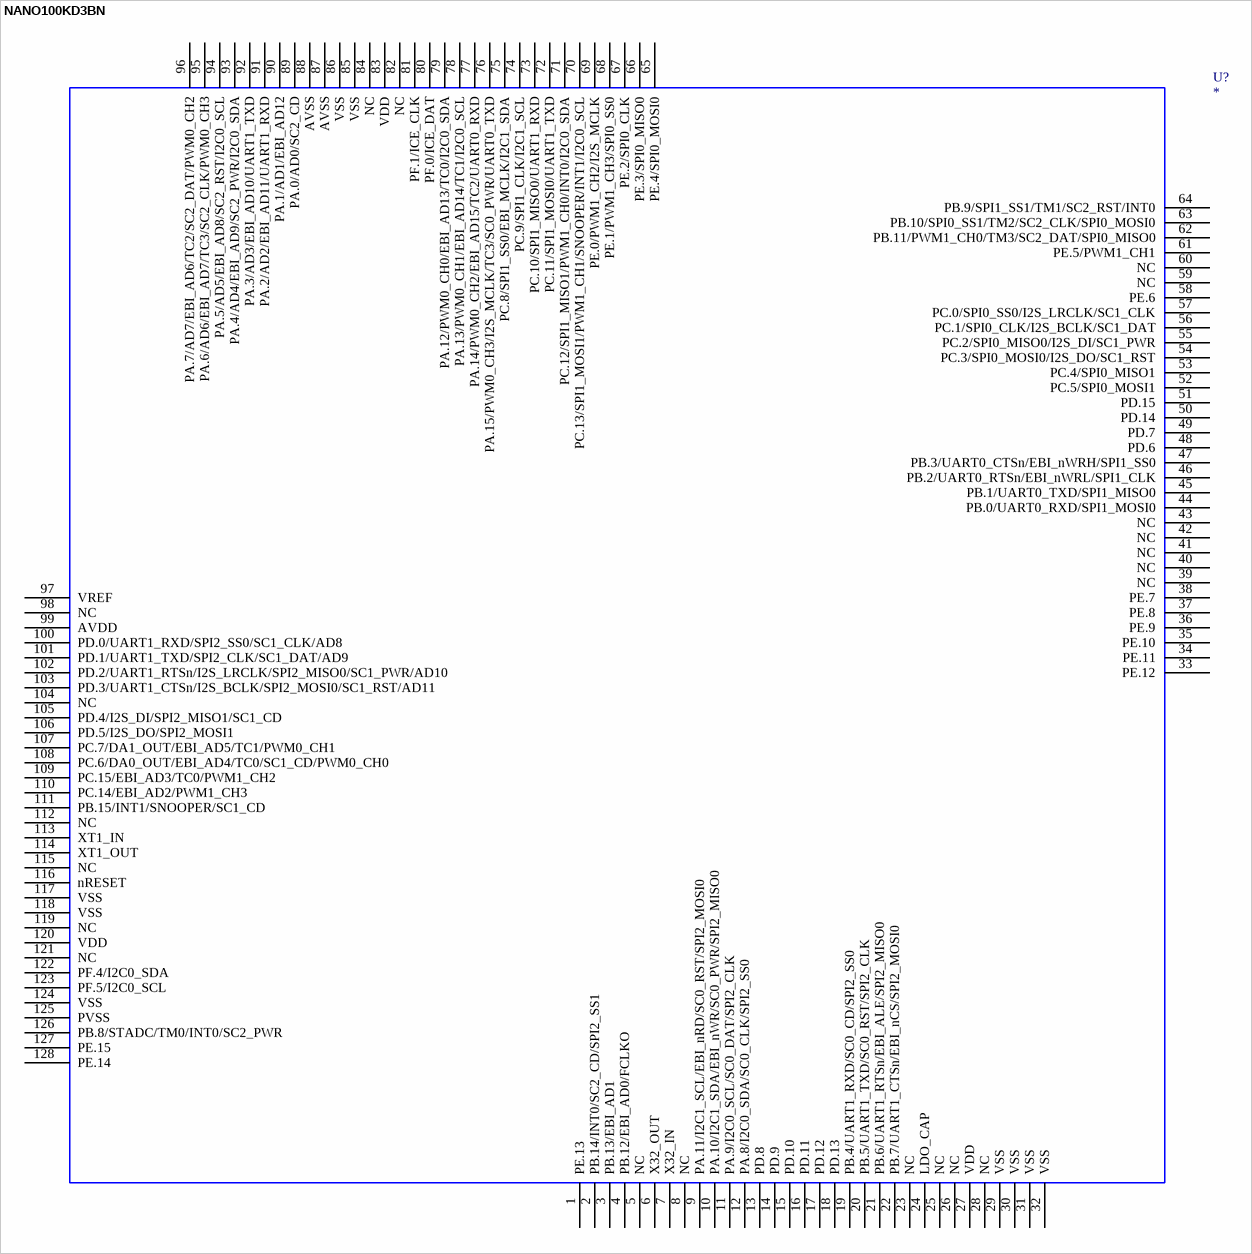
[diagram p59: symbol NANO100KD3BN]

## NANO100KD3BN
designator U?
OriginalSymbolOrigin: (0,0)
footprint MCU_LQFP_128
pins: 1 PE.13, 2 PB.14/INT0/SC2_CD/SPI2_SS1, 3 PB.13/EBI_AD1, 4 PB.12/EBI_AD0/FCLKO, 5 NC, 6 X32_OUT, 7 X32_IN, 8 NC, 9 PA.11/I2C1_SCL/EBI_nRD/SC0_RST/SPI2_MOSI0, 10 PA.10/I2C1_SDA/EBI_nWR/SC0_PWR/SPI2_MISO0, 11 PA.9/I2C0_SCL/SC0_DAT/SPI2_CLK, 12 PA.8/I2C0_SDA/SC0_CLK/SPI2_SS0, 13 PD.8, 14 PD.9, 15 PD.10, 16 PD.11, 17 PD.12, 18 PD.13, 19 PB.4/UART1_RXD/SC0_CD/SPI2_SS0, 20 PB.5/UART1_TXD/SC0_RST/SPI2_CLK, 21 PB.6/UART1_RTSn/EBI_ALE/SPI2_MISO0, 22 PB.7/UART1_CTSn/EBI_nCS/SPI2_MOSI0, 23 NC, 24 LDO_CAP, 25 NC, 26 NC, 27 VDD, 28 NC, 29 VSS, 30 VSS, 31 VSS, 32 VSS, 33 PE.12, 34 PE.11, 35 PE.10, 36 PE.9, 37 PE.8, 38 PE.7, 39 NC, 40 NC, 41 NC, 42 NC, 43 NC, 44 PB.0/UART0_RXD/SPI1_MOSI0, 45 PB.1/UART0_TXD/SPI1_MISO0, 46 PB.2/UART0_RTSn/EBI_nWRL/SPI1_CLK, 47 PB.3/UART0_CTSn/EBI_nWRH/SPI1_SS0, 48 PD.6, 49 PD.7, 50 PD.14, 51 PD.15, 52 PC.5/SPI0_MOSI1, 53 PC.4/SPI0_MISO1, 54 PC.3/SPI0_MOSI0/I2S_DO/SC1_RST, 55 PC.2/SPI0_MISO0/I2S_DI/SC1_PWR, 56 PC.1/SPI0_CLK/I2S_BCLK/SC1_DAT, 57 PC.0/SPI0_SS0/I2S_LRCLK/SC1_CLK, 58 PE.6, 59 NC, 60 NC, 61 PE.5/PWM1_CH1, 62 PB.11/PWM1_CH0/TM3/SC2_DAT/SPI0_MISO0, 63 PB.10/SPI0_SS1/TM2/SC2_CLK/SPI0_MOSI0, 64 PB.9/SPI1_SS1/TM1/SC2_RST/INT0, 65 PE.4/SPI0_MOSI0, 66 PE.3/SPI0_MISO0, 67 PE.2/SPI0_CLK, 68 PE.1/PWM1_CH3/SPI0_SS0, 69 PE.0/PWM1_CH2/I2S_MCLK, 70 PC.13/SPI1_MOSI1/PWM1_CH1/SNOOPER/INT1/I2C0_SCL, 71 PC.12/SPI1_MISO1/PWM1_CH0/INT0/I2C0_SDA, 72 PC.11/SPI1_MOSI0/UART1_TXD, 73 PC.10/SPI1_MISO0/UART1_RXD, 74 PC.9/SPI1_CLK/I2C1_SCL, 75 PC.8/SPI1_SS0/EBI_MCLK/I2C1_SDA, 76 PA.15/PWM0_CH3/I2S_MCLK/TC3/SC0_PWR/UART0_TXD, 77 PA.14/PWM0_CH2/EBI_AD15/TC2/UART0_RXD, 78 PA.13/PWM0_CH1/EBI_AD14/TC1/I2C0_SCL, 79 PA.12/PWM0_CH0/EBI_AD13/TC0/I2C0_SDA, 80 PF.0/ICE_DAT, 81 PF.1/ICE_CLK, 82 NC, 83 VDD, 84 NC, 85 VSS, 86 VSS, 87 AVSS, 88 AVSS, 89 PA.0/AD0/SC2_CD, 90 PA.1/AD1/EBI_AD12, 91 PA.2/AD2/EBI_AD11/UART1_RXD, 92 PA.3/AD3/EBI_AD10/UART1_TXD, 93 PA.4/AD4/EBI_AD9/SC2_PWR/I2C0_SDA, 94 PA.5/AD5/EBI_AD8/SC2_RST/I2C0_SCL, 95 PA.6/AD6/EBI_AD7/TC3/SC2_CLK/PWM0_CH3, 96 PA.7/AD7/EBI_AD6/TC2/SC2_DAT/PWM0_CH2, 97 VREF, 98 NC, 99 AVDD, 100 PD.0/UART1_RXD/SPI2_SS0/SC1_CLK/AD8, 101 PD.1/UART1_TXD/SPI2_CLK/SC1_DAT/AD9, 102 PD.2/UART1_RTSn/I2S_LRCLK/SPI2_MISO0/SC1_PWR/AD10, 103 PD.3/UART1_CTSn/I2S_BCLK/SPI2_MOSI0/SC1_RST/AD11, 104 NC, 105 PD.4/I2S_DI/SPI2_MISO1/SC1_CD, 106 PD.5/I2S_DO/SPI2_MOSI1, 107 PC.7/DA1_OUT/EBI_AD5/TC1/PWM0_CH1, 108 PC.6/DA0_OUT/EBI_AD4/TC0/SC1_CD/PWM0_CH0, 109 PC.15/EBI_AD3/TC0/PWM1_CH2, 110 PC.14/EBI_AD2/PWM1_CH3, 111 PB.15/INT1/SNOOPER/SC1_CD, 112 NC, 113 XT1_IN, 114 XT1_OUT, 115 NC, 116 nRESET, 117 VSS, 118 VSS, 119 NC, 120 VDD, 121 NC, 122 PF.4/I2C0_SDA, 123 PF.5/I2C0_SCL, 124 VSS, 125 PVSS, 126 PB.8/STADC/TM0/INT0/SC2_PWR, 127 PE.15, 128 PE.14

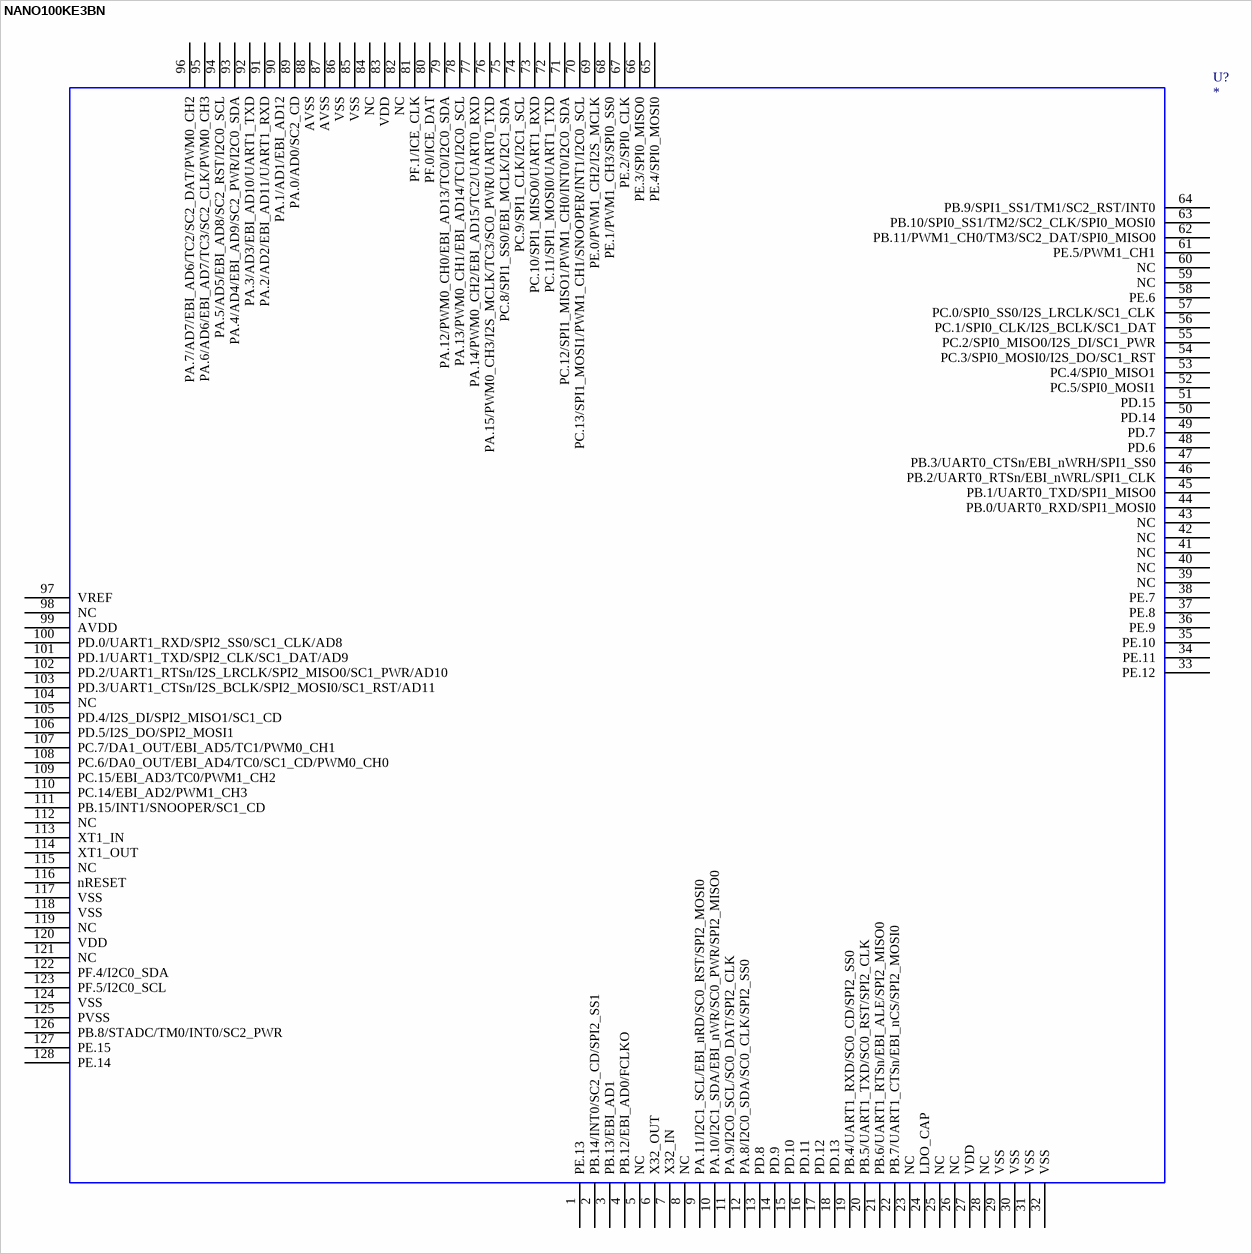
[diagram p60: symbol NANO100KE3BN]

## NANO100KE3BN
designator U?
OriginalSymbolOrigin: (0,0)
footprint MCU_LQFP_128
pins: 1 PE.13, 2 PB.14/INT0/SC2_CD/SPI2_SS1, 3 PB.13/EBI_AD1, 4 PB.12/EBI_AD0/FCLKO, 5 NC, 6 X32_OUT, 7 X32_IN, 8 NC, 9 PA.11/I2C1_SCL/EBI_nRD/SC0_RST/SPI2_MOSI0, 10 PA.10/I2C1_SDA/EBI_nWR/SC0_PWR/SPI2_MISO0, 11 PA.9/I2C0_SCL/SC0_DAT/SPI2_CLK, 12 PA.8/I2C0_SDA/SC0_CLK/SPI2_SS0, 13 PD.8, 14 PD.9, 15 PD.10, 16 PD.11, 17 PD.12, 18 PD.13, 19 PB.4/UART1_RXD/SC0_CD/SPI2_SS0, 20 PB.5/UART1_TXD/SC0_RST/SPI2_CLK, 21 PB.6/UART1_RTSn/EBI_ALE/SPI2_MISO0, 22 PB.7/UART1_CTSn/EBI_nCS/SPI2_MOSI0, 23 NC, 24 LDO_CAP, 25 NC, 26 NC, 27 VDD, 28 NC, 29 VSS, 30 VSS, 31 VSS, 32 VSS, 33 PE.12, 34 PE.11, 35 PE.10, 36 PE.9, 37 PE.8, 38 PE.7, 39 NC, 40 NC, 41 NC, 42 NC, 43 NC, 44 PB.0/UART0_RXD/SPI1_MOSI0, 45 PB.1/UART0_TXD/SPI1_MISO0, 46 PB.2/UART0_RTSn/EBI_nWRL/SPI1_CLK, 47 PB.3/UART0_CTSn/EBI_nWRH/SPI1_SS0, 48 PD.6, 49 PD.7, 50 PD.14, 51 PD.15, 52 PC.5/SPI0_MOSI1, 53 PC.4/SPI0_MISO1, 54 PC.3/SPI0_MOSI0/I2S_DO/SC1_RST, 55 PC.2/SPI0_MISO0/I2S_DI/SC1_PWR, 56 PC.1/SPI0_CLK/I2S_BCLK/SC1_DAT, 57 PC.0/SPI0_SS0/I2S_LRCLK/SC1_CLK, 58 PE.6, 59 NC, 60 NC, 61 PE.5/PWM1_CH1, 62 PB.11/PWM1_CH0/TM3/SC2_DAT/SPI0_MISO0, 63 PB.10/SPI0_SS1/TM2/SC2_CLK/SPI0_MOSI0, 64 PB.9/SPI1_SS1/TM1/SC2_RST/INT0, 65 PE.4/SPI0_MOSI0, 66 PE.3/SPI0_MISO0, 67 PE.2/SPI0_CLK, 68 PE.1/PWM1_CH3/SPI0_SS0, 69 PE.0/PWM1_CH2/I2S_MCLK, 70 PC.13/SPI1_MOSI1/PWM1_CH1/SNOOPER/INT1/I2C0_SCL, 71 PC.12/SPI1_MISO1/PWM1_CH0/INT0/I2C0_SDA, 72 PC.11/SPI1_MOSI0/UART1_TXD, 73 PC.10/SPI1_MISO0/UART1_RXD, 74 PC.9/SPI1_CLK/I2C1_SCL, 75 PC.8/SPI1_SS0/EBI_MCLK/I2C1_SDA, 76 PA.15/PWM0_CH3/I2S_MCLK/TC3/SC0_PWR/UART0_TXD, 77 PA.14/PWM0_CH2/EBI_AD15/TC2/UART0_RXD, 78 PA.13/PWM0_CH1/EBI_AD14/TC1/I2C0_SCL, 79 PA.12/PWM0_CH0/EBI_AD13/TC0/I2C0_SDA, 80 PF.0/ICE_DAT, 81 PF.1/ICE_CLK, 82 NC, 83 VDD, 84 NC, 85 VSS, 86 VSS, 87 AVSS, 88 AVSS, 89 PA.0/AD0/SC2_CD, 90 PA.1/AD1/EBI_AD12, 91 PA.2/AD2/EBI_AD11/UART1_RXD, 92 PA.3/AD3/EBI_AD10/UART1_TXD, 93 PA.4/AD4/EBI_AD9/SC2_PWR/I2C0_SDA, 94 PA.5/AD5/EBI_AD8/SC2_RST/I2C0_SCL, 95 PA.6/AD6/EBI_AD7/TC3/SC2_CLK/PWM0_CH3, 96 PA.7/AD7/EBI_AD6/TC2/SC2_DAT/PWM0_CH2, 97 VREF, 98 NC, 99 AVDD, 100 PD.0/UART1_RXD/SPI2_SS0/SC1_CLK/AD8, 101 PD.1/UART1_TXD/SPI2_CLK/SC1_DAT/AD9, 102 PD.2/UART1_RTSn/I2S_LRCLK/SPI2_MISO0/SC1_PWR/AD10, 103 PD.3/UART1_CTSn/I2S_BCLK/SPI2_MOSI0/SC1_RST/AD11, 104 NC, 105 PD.4/I2S_DI/SPI2_MISO1/SC1_CD, 106 PD.5/I2S_DO/SPI2_MOSI1, 107 PC.7/DA1_OUT/EBI_AD5/TC1/PWM0_CH1, 108 PC.6/DA0_OUT/EBI_AD4/TC0/SC1_CD/PWM0_CH0, 109 PC.15/EBI_AD3/TC0/PWM1_CH2, 110 PC.14/EBI_AD2/PWM1_CH3, 111 PB.15/INT1/SNOOPER/SC1_CD, 112 NC, 113 XT1_IN, 114 XT1_OUT, 115 NC, 116 nRESET, 117 VSS, 118 VSS, 119 NC, 120 VDD, 121 NC, 122 PF.4/I2C0_SDA, 123 PF.5/I2C0_SCL, 124 VSS, 125 PVSS, 126 PB.8/STADC/TM0/INT0/SC2_PWR, 127 PE.15, 128 PE.14

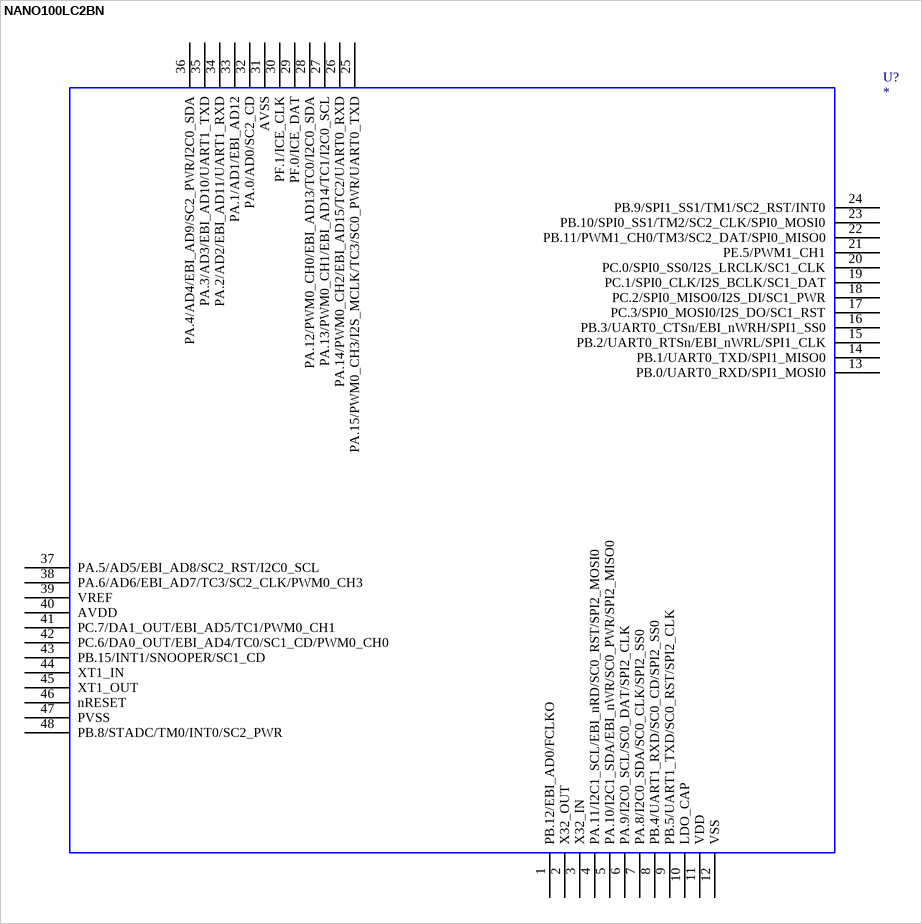
[diagram p61: symbol NANO100LC2BN]

## NANO100LC2BN
designator U?
OriginalSymbolOrigin: (0,0)
footprint MCU_LQFP_48
pins: 1 PB.12/EBI_AD0/FCLKO, 2 X32_OUT, 3 X32_IN, 4 PA.11/I2C1_SCL/EBI_nRD/SC0_RST/SPI2_MOSI0, 5 PA.10/I2C1_SDA/EBI_nWR/SC0_PWR/SPI2_MISO0, 6 PA.9/I2C0_SCL/SC0_DAT/SPI2_CLK, 7 PA.8/I2C0_SDA/SC0_CLK/SPI2_SS0, 8 PB.4/UART1_RXD/SC0_CD/SPI2_SS0, 9 PB.5/UART1_TXD/SC0_RST/SPI2_CLK, 10 LDO_CAP, 11 VDD, 12 VSS, 13 PB.0/UART0_RXD/SPI1_MOSI0, 14 PB.1/UART0_TXD/SPI1_MISO0, 15 PB.2/UART0_RTSn/EBI_nWRL/SPI1_CLK, 16 PB.3/UART0_CTSn/EBI_nWRH/SPI1_SS0, 17 PC.3/SPI0_MOSI0/I2S_DO/SC1_RST, 18 PC.2/SPI0_MISO0/I2S_DI/SC1_PWR, 19 PC.1/SPI0_CLK/I2S_BCLK/SC1_DAT, 20 PC.0/SPI0_SS0/I2S_LRCLK/SC1_CLK, 21 PE.5/PWM1_CH1, 22 PB.11/PWM1_CH0/TM3/SC2_DAT/SPI0_MISO0, 23 PB.10/SPI0_SS1/TM2/SC2_CLK/SPI0_MOSI0, 24 PB.9/SPI1_SS1/TM1/SC2_RST/INT0, 25 PA.15/PWM0_CH3/I2S_MCLK/TC3/SC0_PWR/UART0_TXD, 26 PA.14/PWM0_CH2/EBI_AD15/TC2/UART0_RXD, 27 PA.13/PWM0_CH1/EBI_AD14/TC1/I2C0_SCL, 28 PA.12/PWM0_CH0/EBI_AD13/TC0/I2C0_SDA, 29 PF.0/ICE_DAT, 30 PF.1/ICE_CLK, 31 AVSS, 32 PA.0/AD0/SC2_CD, 33 PA.1/AD1/EBI_AD12, 34 PA.2/AD2/EBI_AD11/UART1_RXD, 35 PA.3/AD3/EBI_AD10/UART1_TXD, 36 PA.4/AD4/EBI_AD9/SC2_PWR/I2C0_SDA, 37 PA.5/AD5/EBI_AD8/SC2_RST/I2C0_SCL, 38 PA.6/AD6/EBI_AD7/TC3/SC2_CLK/PWM0_CH3, 39 VREF, 40 AVDD, 41 PC.7/DA1_OUT/EBI_AD5/TC1/PWM0_CH1, 42 PC.6/DA0_OUT/EBI_AD4/TC0/SC1_CD/PWM0_CH0, 43 PB.15/INT1/SNOOPER/SC1_CD, 44 XT1_IN, 45 XT1_OUT, 46 nRESET, 47 PVSS, 48 PB.8/STADC/TM0/INT0/SC2_PWR

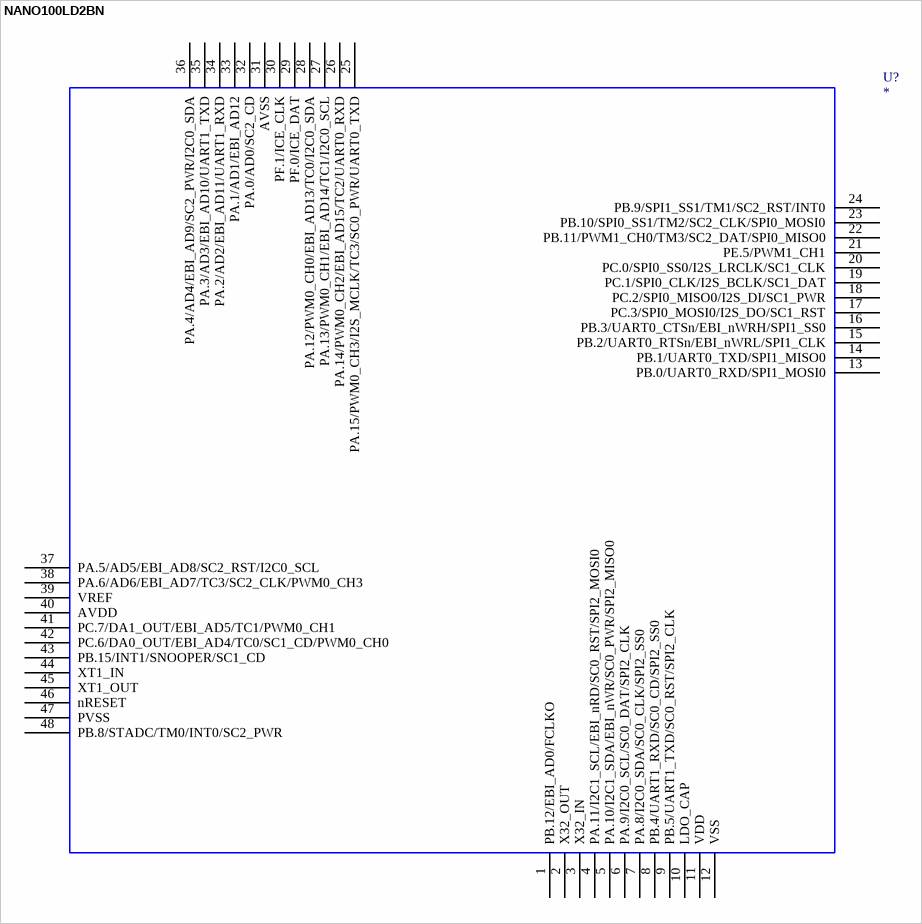
[diagram p62: symbol NANO100LD2BN]

## NANO100LD2BN
designator U?
OriginalSymbolOrigin: (0,0)
footprint MCU_LQFP_48
pins: 1 PB.12/EBI_AD0/FCLKO, 2 X32_OUT, 3 X32_IN, 4 PA.11/I2C1_SCL/EBI_nRD/SC0_RST/SPI2_MOSI0, 5 PA.10/I2C1_SDA/EBI_nWR/SC0_PWR/SPI2_MISO0, 6 PA.9/I2C0_SCL/SC0_DAT/SPI2_CLK, 7 PA.8/I2C0_SDA/SC0_CLK/SPI2_SS0, 8 PB.4/UART1_RXD/SC0_CD/SPI2_SS0, 9 PB.5/UART1_TXD/SC0_RST/SPI2_CLK, 10 LDO_CAP, 11 VDD, 12 VSS, 13 PB.0/UART0_RXD/SPI1_MOSI0, 14 PB.1/UART0_TXD/SPI1_MISO0, 15 PB.2/UART0_RTSn/EBI_nWRL/SPI1_CLK, 16 PB.3/UART0_CTSn/EBI_nWRH/SPI1_SS0, 17 PC.3/SPI0_MOSI0/I2S_DO/SC1_RST, 18 PC.2/SPI0_MISO0/I2S_DI/SC1_PWR, 19 PC.1/SPI0_CLK/I2S_BCLK/SC1_DAT, 20 PC.0/SPI0_SS0/I2S_LRCLK/SC1_CLK, 21 PE.5/PWM1_CH1, 22 PB.11/PWM1_CH0/TM3/SC2_DAT/SPI0_MISO0, 23 PB.10/SPI0_SS1/TM2/SC2_CLK/SPI0_MOSI0, 24 PB.9/SPI1_SS1/TM1/SC2_RST/INT0, 25 PA.15/PWM0_CH3/I2S_MCLK/TC3/SC0_PWR/UART0_TXD, 26 PA.14/PWM0_CH2/EBI_AD15/TC2/UART0_RXD, 27 PA.13/PWM0_CH1/EBI_AD14/TC1/I2C0_SCL, 28 PA.12/PWM0_CH0/EBI_AD13/TC0/I2C0_SDA, 29 PF.0/ICE_DAT, 30 PF.1/ICE_CLK, 31 AVSS, 32 PA.0/AD0/SC2_CD, 33 PA.1/AD1/EBI_AD12, 34 PA.2/AD2/EBI_AD11/UART1_RXD, 35 PA.3/AD3/EBI_AD10/UART1_TXD, 36 PA.4/AD4/EBI_AD9/SC2_PWR/I2C0_SDA, 37 PA.5/AD5/EBI_AD8/SC2_RST/I2C0_SCL, 38 PA.6/AD6/EBI_AD7/TC3/SC2_CLK/PWM0_CH3, 39 VREF, 40 AVDD, 41 PC.7/DA1_OUT/EBI_AD5/TC1/PWM0_CH1, 42 PC.6/DA0_OUT/EBI_AD4/TC0/SC1_CD/PWM0_CH0, 43 PB.15/INT1/SNOOPER/SC1_CD, 44 XT1_IN, 45 XT1_OUT, 46 nRESET, 47 PVSS, 48 PB.8/STADC/TM0/INT0/SC2_PWR

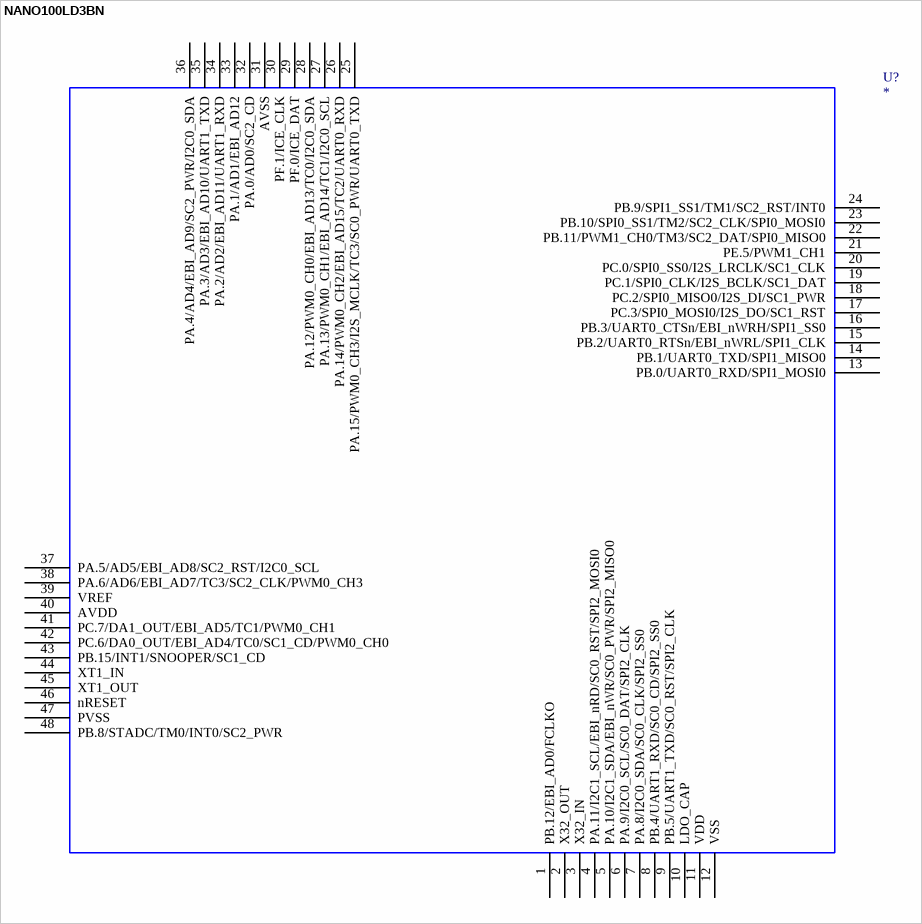
[diagram p63: symbol NANO100LD3BN]

## NANO100LD3BN
designator U?
OriginalSymbolOrigin: (0,0)
footprint MCU_LQFP_48
pins: 1 PB.12/EBI_AD0/FCLKO, 2 X32_OUT, 3 X32_IN, 4 PA.11/I2C1_SCL/EBI_nRD/SC0_RST/SPI2_MOSI0, 5 PA.10/I2C1_SDA/EBI_nWR/SC0_PWR/SPI2_MISO0, 6 PA.9/I2C0_SCL/SC0_DAT/SPI2_CLK, 7 PA.8/I2C0_SDA/SC0_CLK/SPI2_SS0, 8 PB.4/UART1_RXD/SC0_CD/SPI2_SS0, 9 PB.5/UART1_TXD/SC0_RST/SPI2_CLK, 10 LDO_CAP, 11 VDD, 12 VSS, 13 PB.0/UART0_RXD/SPI1_MOSI0, 14 PB.1/UART0_TXD/SPI1_MISO0, 15 PB.2/UART0_RTSn/EBI_nWRL/SPI1_CLK, 16 PB.3/UART0_CTSn/EBI_nWRH/SPI1_SS0, 17 PC.3/SPI0_MOSI0/I2S_DO/SC1_RST, 18 PC.2/SPI0_MISO0/I2S_DI/SC1_PWR, 19 PC.1/SPI0_CLK/I2S_BCLK/SC1_DAT, 20 PC.0/SPI0_SS0/I2S_LRCLK/SC1_CLK, 21 PE.5/PWM1_CH1, 22 PB.11/PWM1_CH0/TM3/SC2_DAT/SPI0_MISO0, 23 PB.10/SPI0_SS1/TM2/SC2_CLK/SPI0_MOSI0, 24 PB.9/SPI1_SS1/TM1/SC2_RST/INT0, 25 PA.15/PWM0_CH3/I2S_MCLK/TC3/SC0_PWR/UART0_TXD, 26 PA.14/PWM0_CH2/EBI_AD15/TC2/UART0_RXD, 27 PA.13/PWM0_CH1/EBI_AD14/TC1/I2C0_SCL, 28 PA.12/PWM0_CH0/EBI_AD13/TC0/I2C0_SDA, 29 PF.0/ICE_DAT, 30 PF.1/ICE_CLK, 31 AVSS, 32 PA.0/AD0/SC2_CD, 33 PA.1/AD1/EBI_AD12, 34 PA.2/AD2/EBI_AD11/UART1_RXD, 35 PA.3/AD3/EBI_AD10/UART1_TXD, 36 PA.4/AD4/EBI_AD9/SC2_PWR/I2C0_SDA, 37 PA.5/AD5/EBI_AD8/SC2_RST/I2C0_SCL, 38 PA.6/AD6/EBI_AD7/TC3/SC2_CLK/PWM0_CH3, 39 VREF, 40 AVDD, 41 PC.7/DA1_OUT/EBI_AD5/TC1/PWM0_CH1, 42 PC.6/DA0_OUT/EBI_AD4/TC0/SC1_CD/PWM0_CH0, 43 PB.15/INT1/SNOOPER/SC1_CD, 44 XT1_IN, 45 XT1_OUT, 46 nRESET, 47 PVSS, 48 PB.8/STADC/TM0/INT0/SC2_PWR

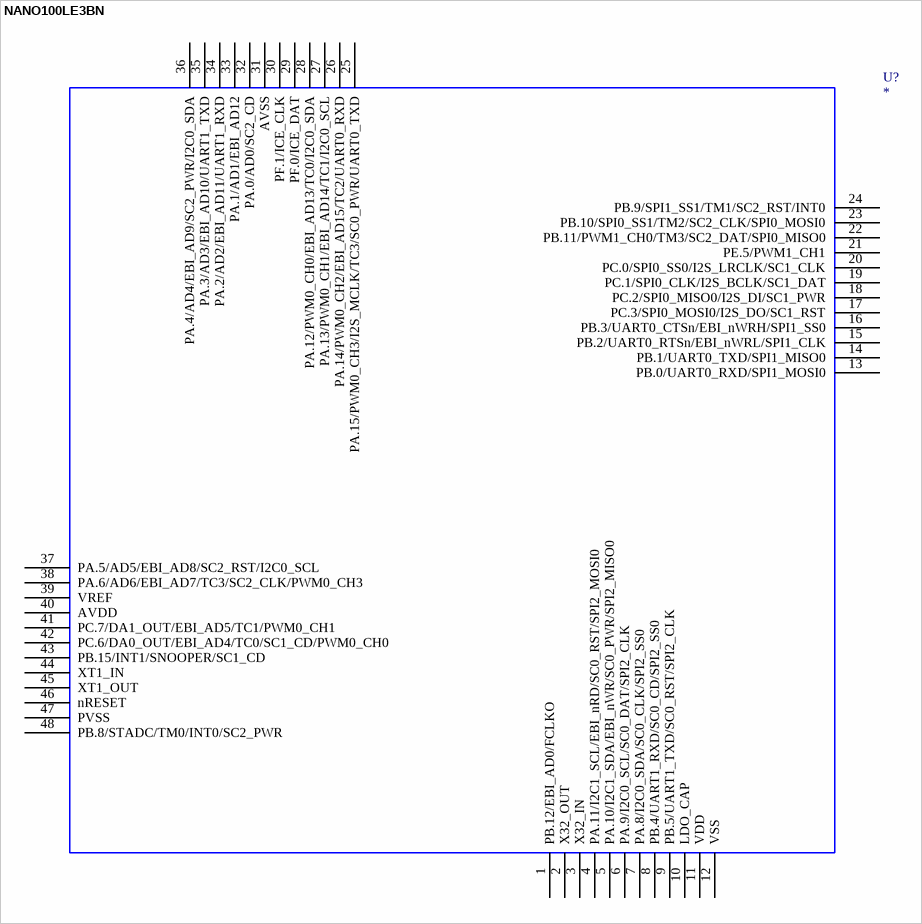
[diagram p64: symbol NANO100LE3BN]

## NANO100LE3BN
designator U?
OriginalSymbolOrigin: (0,0)
footprint MCU_LQFP_48
pins: 1 PB.12/EBI_AD0/FCLKO, 2 X32_OUT, 3 X32_IN, 4 PA.11/I2C1_SCL/EBI_nRD/SC0_RST/SPI2_MOSI0, 5 PA.10/I2C1_SDA/EBI_nWR/SC0_PWR/SPI2_MISO0, 6 PA.9/I2C0_SCL/SC0_DAT/SPI2_CLK, 7 PA.8/I2C0_SDA/SC0_CLK/SPI2_SS0, 8 PB.4/UART1_RXD/SC0_CD/SPI2_SS0, 9 PB.5/UART1_TXD/SC0_RST/SPI2_CLK, 10 LDO_CAP, 11 VDD, 12 VSS, 13 PB.0/UART0_RXD/SPI1_MOSI0, 14 PB.1/UART0_TXD/SPI1_MISO0, 15 PB.2/UART0_RTSn/EBI_nWRL/SPI1_CLK, 16 PB.3/UART0_CTSn/EBI_nWRH/SPI1_SS0, 17 PC.3/SPI0_MOSI0/I2S_DO/SC1_RST, 18 PC.2/SPI0_MISO0/I2S_DI/SC1_PWR, 19 PC.1/SPI0_CLK/I2S_BCLK/SC1_DAT, 20 PC.0/SPI0_SS0/I2S_LRCLK/SC1_CLK, 21 PE.5/PWM1_CH1, 22 PB.11/PWM1_CH0/TM3/SC2_DAT/SPI0_MISO0, 23 PB.10/SPI0_SS1/TM2/SC2_CLK/SPI0_MOSI0, 24 PB.9/SPI1_SS1/TM1/SC2_RST/INT0, 25 PA.15/PWM0_CH3/I2S_MCLK/TC3/SC0_PWR/UART0_TXD, 26 PA.14/PWM0_CH2/EBI_AD15/TC2/UART0_RXD, 27 PA.13/PWM0_CH1/EBI_AD14/TC1/I2C0_SCL, 28 PA.12/PWM0_CH0/EBI_AD13/TC0/I2C0_SDA, 29 PF.0/ICE_DAT, 30 PF.1/ICE_CLK, 31 AVSS, 32 PA.0/AD0/SC2_CD, 33 PA.1/AD1/EBI_AD12, 34 PA.2/AD2/EBI_AD11/UART1_RXD, 35 PA.3/AD3/EBI_AD10/UART1_TXD, 36 PA.4/AD4/EBI_AD9/SC2_PWR/I2C0_SDA, 37 PA.5/AD5/EBI_AD8/SC2_RST/I2C0_SCL, 38 PA.6/AD6/EBI_AD7/TC3/SC2_CLK/PWM0_CH3, 39 VREF, 40 AVDD, 41 PC.7/DA1_OUT/EBI_AD5/TC1/PWM0_CH1, 42 PC.6/DA0_OUT/EBI_AD4/TC0/SC1_CD/PWM0_CH0, 43 PB.15/INT1/SNOOPER/SC1_CD, 44 XT1_IN, 45 XT1_OUT, 46 nRESET, 47 PVSS, 48 PB.8/STADC/TM0/INT0/SC2_PWR

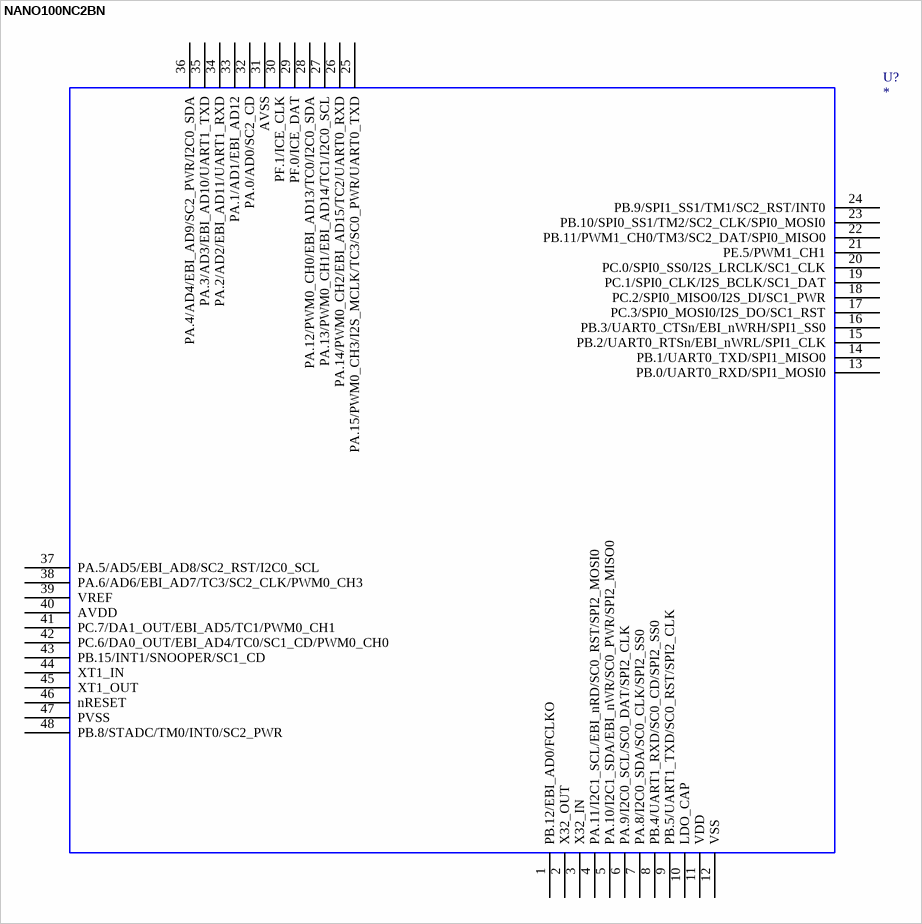
[diagram p65: symbol NANO100NC2BN]

## NANO100NC2BN
designator U?
OriginalSymbolOrigin: (0,0)
footprint MCU_QFN_48_7x7
pins: 1 PB.12/EBI_AD0/FCLKO, 2 X32_OUT, 3 X32_IN, 4 PA.11/I2C1_SCL/EBI_nRD/SC0_RST/SPI2_MOSI0, 5 PA.10/I2C1_SDA/EBI_nWR/SC0_PWR/SPI2_MISO0, 6 PA.9/I2C0_SCL/SC0_DAT/SPI2_CLK, 7 PA.8/I2C0_SDA/SC0_CLK/SPI2_SS0, 8 PB.4/UART1_RXD/SC0_CD/SPI2_SS0, 9 PB.5/UART1_TXD/SC0_RST/SPI2_CLK, 10 LDO_CAP, 11 VDD, 12 VSS, 13 PB.0/UART0_RXD/SPI1_MOSI0, 14 PB.1/UART0_TXD/SPI1_MISO0, 15 PB.2/UART0_RTSn/EBI_nWRL/SPI1_CLK, 16 PB.3/UART0_CTSn/EBI_nWRH/SPI1_SS0, 17 PC.3/SPI0_MOSI0/I2S_DO/SC1_RST, 18 PC.2/SPI0_MISO0/I2S_DI/SC1_PWR, 19 PC.1/SPI0_CLK/I2S_BCLK/SC1_DAT, 20 PC.0/SPI0_SS0/I2S_LRCLK/SC1_CLK, 21 PE.5/PWM1_CH1, 22 PB.11/PWM1_CH0/TM3/SC2_DAT/SPI0_MISO0, 23 PB.10/SPI0_SS1/TM2/SC2_CLK/SPI0_MOSI0, 24 PB.9/SPI1_SS1/TM1/SC2_RST/INT0, 25 PA.15/PWM0_CH3/I2S_MCLK/TC3/SC0_PWR/UART0_TXD, 26 PA.14/PWM0_CH2/EBI_AD15/TC2/UART0_RXD, 27 PA.13/PWM0_CH1/EBI_AD14/TC1/I2C0_SCL, 28 PA.12/PWM0_CH0/EBI_AD13/TC0/I2C0_SDA, 29 PF.0/ICE_DAT, 30 PF.1/ICE_CLK, 31 AVSS, 32 PA.0/AD0/SC2_CD, 33 PA.1/AD1/EBI_AD12, 34 PA.2/AD2/EBI_AD11/UART1_RXD, 35 PA.3/AD3/EBI_AD10/UART1_TXD, 36 PA.4/AD4/EBI_AD9/SC2_PWR/I2C0_SDA, 37 PA.5/AD5/EBI_AD8/SC2_RST/I2C0_SCL, 38 PA.6/AD6/EBI_AD7/TC3/SC2_CLK/PWM0_CH3, 39 VREF, 40 AVDD, 41 PC.7/DA1_OUT/EBI_AD5/TC1/PWM0_CH1, 42 PC.6/DA0_OUT/EBI_AD4/TC0/SC1_CD/PWM0_CH0, 43 PB.15/INT1/SNOOPER/SC1_CD, 44 XT1_IN, 45 XT1_OUT, 46 nRESET, 47 PVSS, 48 PB.8/STADC/TM0/INT0/SC2_PWR

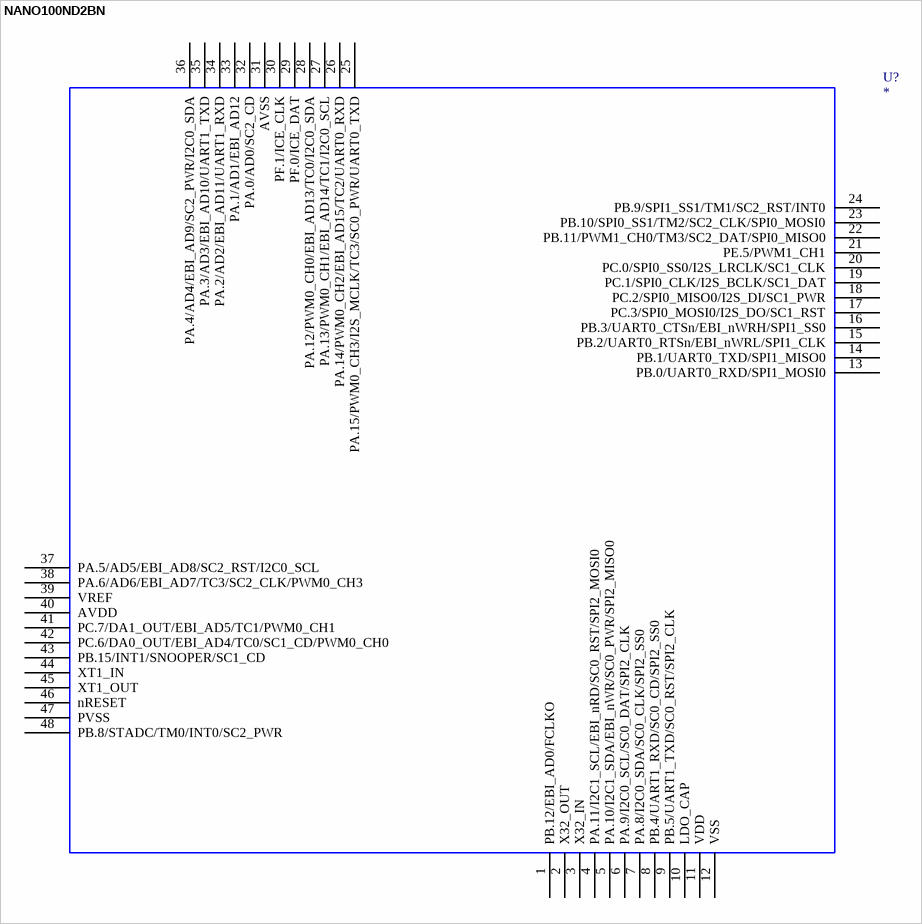
[diagram p66: symbol NANO100ND2BN]

## NANO100ND2BN
designator U?
OriginalSymbolOrigin: (0,0)
footprint MCU_QFN_48_7x7
pins: 1 PB.12/EBI_AD0/FCLKO, 2 X32_OUT, 3 X32_IN, 4 PA.11/I2C1_SCL/EBI_nRD/SC0_RST/SPI2_MOSI0, 5 PA.10/I2C1_SDA/EBI_nWR/SC0_PWR/SPI2_MISO0, 6 PA.9/I2C0_SCL/SC0_DAT/SPI2_CLK, 7 PA.8/I2C0_SDA/SC0_CLK/SPI2_SS0, 8 PB.4/UART1_RXD/SC0_CD/SPI2_SS0, 9 PB.5/UART1_TXD/SC0_RST/SPI2_CLK, 10 LDO_CAP, 11 VDD, 12 VSS, 13 PB.0/UART0_RXD/SPI1_MOSI0, 14 PB.1/UART0_TXD/SPI1_MISO0, 15 PB.2/UART0_RTSn/EBI_nWRL/SPI1_CLK, 16 PB.3/UART0_CTSn/EBI_nWRH/SPI1_SS0, 17 PC.3/SPI0_MOSI0/I2S_DO/SC1_RST, 18 PC.2/SPI0_MISO0/I2S_DI/SC1_PWR, 19 PC.1/SPI0_CLK/I2S_BCLK/SC1_DAT, 20 PC.0/SPI0_SS0/I2S_LRCLK/SC1_CLK, 21 PE.5/PWM1_CH1, 22 PB.11/PWM1_CH0/TM3/SC2_DAT/SPI0_MISO0, 23 PB.10/SPI0_SS1/TM2/SC2_CLK/SPI0_MOSI0, 24 PB.9/SPI1_SS1/TM1/SC2_RST/INT0, 25 PA.15/PWM0_CH3/I2S_MCLK/TC3/SC0_PWR/UART0_TXD, 26 PA.14/PWM0_CH2/EBI_AD15/TC2/UART0_RXD, 27 PA.13/PWM0_CH1/EBI_AD14/TC1/I2C0_SCL, 28 PA.12/PWM0_CH0/EBI_AD13/TC0/I2C0_SDA, 29 PF.0/ICE_DAT, 30 PF.1/ICE_CLK, 31 AVSS, 32 PA.0/AD0/SC2_CD, 33 PA.1/AD1/EBI_AD12, 34 PA.2/AD2/EBI_AD11/UART1_RXD, 35 PA.3/AD3/EBI_AD10/UART1_TXD, 36 PA.4/AD4/EBI_AD9/SC2_PWR/I2C0_SDA, 37 PA.5/AD5/EBI_AD8/SC2_RST/I2C0_SCL, 38 PA.6/AD6/EBI_AD7/TC3/SC2_CLK/PWM0_CH3, 39 VREF, 40 AVDD, 41 PC.7/DA1_OUT/EBI_AD5/TC1/PWM0_CH1, 42 PC.6/DA0_OUT/EBI_AD4/TC0/SC1_CD/PWM0_CH0, 43 PB.15/INT1/SNOOPER/SC1_CD, 44 XT1_IN, 45 XT1_OUT, 46 nRESET, 47 PVSS, 48 PB.8/STADC/TM0/INT0/SC2_PWR

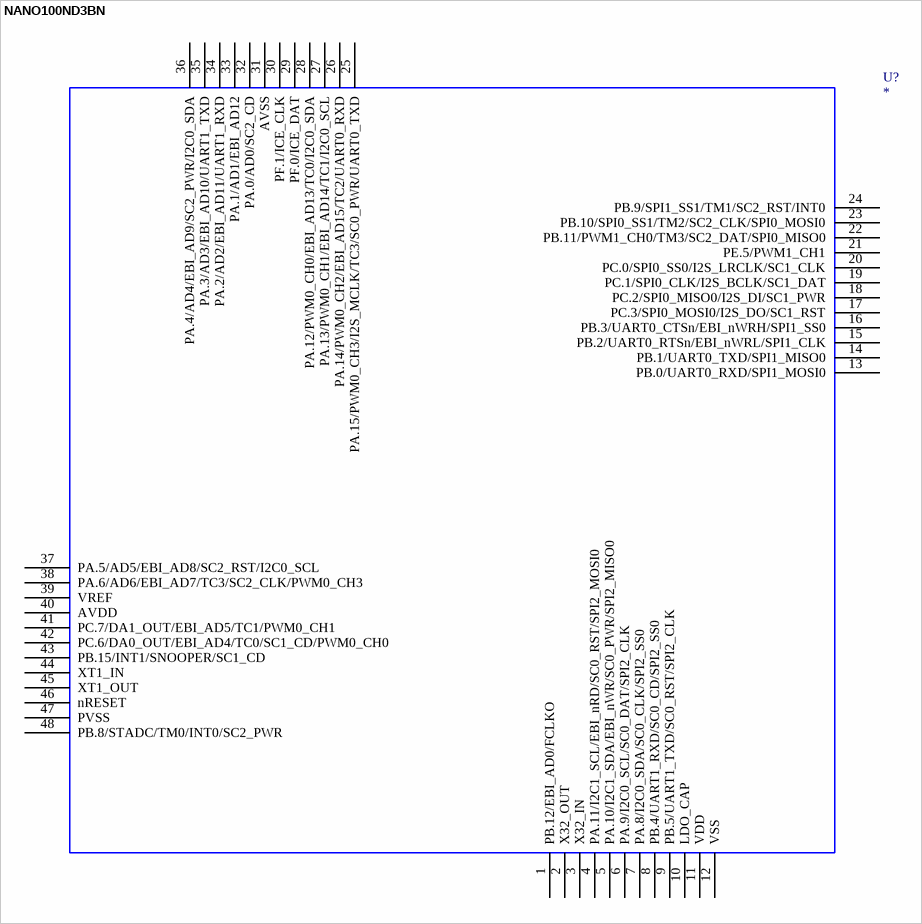
[diagram p67: symbol NANO100ND3BN]

## NANO100ND3BN
designator U?
OriginalSymbolOrigin: (0,0)
footprint MCU_QFN_48_7x7
pins: 1 PB.12/EBI_AD0/FCLKO, 2 X32_OUT, 3 X32_IN, 4 PA.11/I2C1_SCL/EBI_nRD/SC0_RST/SPI2_MOSI0, 5 PA.10/I2C1_SDA/EBI_nWR/SC0_PWR/SPI2_MISO0, 6 PA.9/I2C0_SCL/SC0_DAT/SPI2_CLK, 7 PA.8/I2C0_SDA/SC0_CLK/SPI2_SS0, 8 PB.4/UART1_RXD/SC0_CD/SPI2_SS0, 9 PB.5/UART1_TXD/SC0_RST/SPI2_CLK, 10 LDO_CAP, 11 VDD, 12 VSS, 13 PB.0/UART0_RXD/SPI1_MOSI0, 14 PB.1/UART0_TXD/SPI1_MISO0, 15 PB.2/UART0_RTSn/EBI_nWRL/SPI1_CLK, 16 PB.3/UART0_CTSn/EBI_nWRH/SPI1_SS0, 17 PC.3/SPI0_MOSI0/I2S_DO/SC1_RST, 18 PC.2/SPI0_MISO0/I2S_DI/SC1_PWR, 19 PC.1/SPI0_CLK/I2S_BCLK/SC1_DAT, 20 PC.0/SPI0_SS0/I2S_LRCLK/SC1_CLK, 21 PE.5/PWM1_CH1, 22 PB.11/PWM1_CH0/TM3/SC2_DAT/SPI0_MISO0, 23 PB.10/SPI0_SS1/TM2/SC2_CLK/SPI0_MOSI0, 24 PB.9/SPI1_SS1/TM1/SC2_RST/INT0, 25 PA.15/PWM0_CH3/I2S_MCLK/TC3/SC0_PWR/UART0_TXD, 26 PA.14/PWM0_CH2/EBI_AD15/TC2/UART0_RXD, 27 PA.13/PWM0_CH1/EBI_AD14/TC1/I2C0_SCL, 28 PA.12/PWM0_CH0/EBI_AD13/TC0/I2C0_SDA, 29 PF.0/ICE_DAT, 30 PF.1/ICE_CLK, 31 AVSS, 32 PA.0/AD0/SC2_CD, 33 PA.1/AD1/EBI_AD12, 34 PA.2/AD2/EBI_AD11/UART1_RXD, 35 PA.3/AD3/EBI_AD10/UART1_TXD, 36 PA.4/AD4/EBI_AD9/SC2_PWR/I2C0_SDA, 37 PA.5/AD5/EBI_AD8/SC2_RST/I2C0_SCL, 38 PA.6/AD6/EBI_AD7/TC3/SC2_CLK/PWM0_CH3, 39 VREF, 40 AVDD, 41 PC.7/DA1_OUT/EBI_AD5/TC1/PWM0_CH1, 42 PC.6/DA0_OUT/EBI_AD4/TC0/SC1_CD/PWM0_CH0, 43 PB.15/INT1/SNOOPER/SC1_CD, 44 XT1_IN, 45 XT1_OUT, 46 nRESET, 47 PVSS, 48 PB.8/STADC/TM0/INT0/SC2_PWR

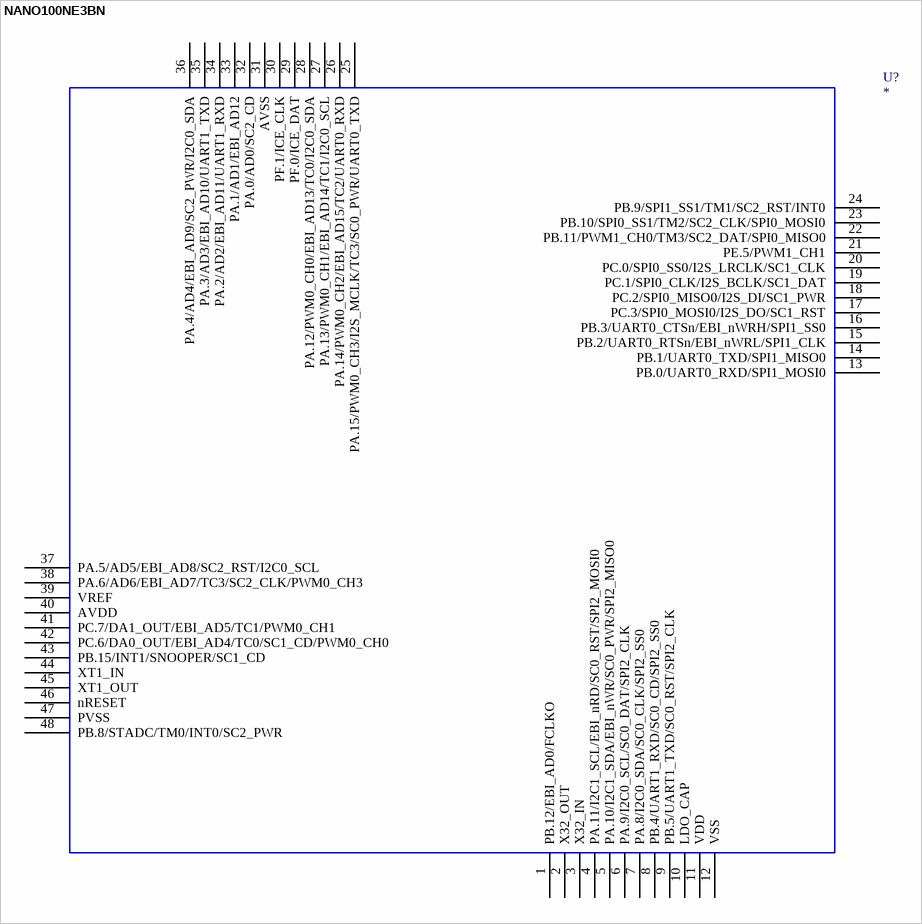
[diagram p68: symbol NANO100NE3BN]

## NANO100NE3BN
designator U?
OriginalSymbolOrigin: (0,0)
footprint MCU_QFN_48_7x7
pins: 1 PB.12/EBI_AD0/FCLKO, 2 X32_OUT, 3 X32_IN, 4 PA.11/I2C1_SCL/EBI_nRD/SC0_RST/SPI2_MOSI0, 5 PA.10/I2C1_SDA/EBI_nWR/SC0_PWR/SPI2_MISO0, 6 PA.9/I2C0_SCL/SC0_DAT/SPI2_CLK, 7 PA.8/I2C0_SDA/SC0_CLK/SPI2_SS0, 8 PB.4/UART1_RXD/SC0_CD/SPI2_SS0, 9 PB.5/UART1_TXD/SC0_RST/SPI2_CLK, 10 LDO_CAP, 11 VDD, 12 VSS, 13 PB.0/UART0_RXD/SPI1_MOSI0, 14 PB.1/UART0_TXD/SPI1_MISO0, 15 PB.2/UART0_RTSn/EBI_nWRL/SPI1_CLK, 16 PB.3/UART0_CTSn/EBI_nWRH/SPI1_SS0, 17 PC.3/SPI0_MOSI0/I2S_DO/SC1_RST, 18 PC.2/SPI0_MISO0/I2S_DI/SC1_PWR, 19 PC.1/SPI0_CLK/I2S_BCLK/SC1_DAT, 20 PC.0/SPI0_SS0/I2S_LRCLK/SC1_CLK, 21 PE.5/PWM1_CH1, 22 PB.11/PWM1_CH0/TM3/SC2_DAT/SPI0_MISO0, 23 PB.10/SPI0_SS1/TM2/SC2_CLK/SPI0_MOSI0, 24 PB.9/SPI1_SS1/TM1/SC2_RST/INT0, 25 PA.15/PWM0_CH3/I2S_MCLK/TC3/SC0_PWR/UART0_TXD, 26 PA.14/PWM0_CH2/EBI_AD15/TC2/UART0_RXD, 27 PA.13/PWM0_CH1/EBI_AD14/TC1/I2C0_SCL, 28 PA.12/PWM0_CH0/EBI_AD13/TC0/I2C0_SDA, 29 PF.0/ICE_DAT, 30 PF.1/ICE_CLK, 31 AVSS, 32 PA.0/AD0/SC2_CD, 33 PA.1/AD1/EBI_AD12, 34 PA.2/AD2/EBI_AD11/UART1_RXD, 35 PA.3/AD3/EBI_AD10/UART1_TXD, 36 PA.4/AD4/EBI_AD9/SC2_PWR/I2C0_SDA, 37 PA.5/AD5/EBI_AD8/SC2_RST/I2C0_SCL, 38 PA.6/AD6/EBI_AD7/TC3/SC2_CLK/PWM0_CH3, 39 VREF, 40 AVDD, 41 PC.7/DA1_OUT/EBI_AD5/TC1/PWM0_CH1, 42 PC.6/DA0_OUT/EBI_AD4/TC0/SC1_CD/PWM0_CH0, 43 PB.15/INT1/SNOOPER/SC1_CD, 44 XT1_IN, 45 XT1_OUT, 46 nRESET, 47 PVSS, 48 PB.8/STADC/TM0/INT0/SC2_PWR